# Altium schematic symbol library Operational Amplifiers.SchLib: 237 symbols (part 1 of 2)
Pins are listed as number, name and electrical type; pins without a type are passive.

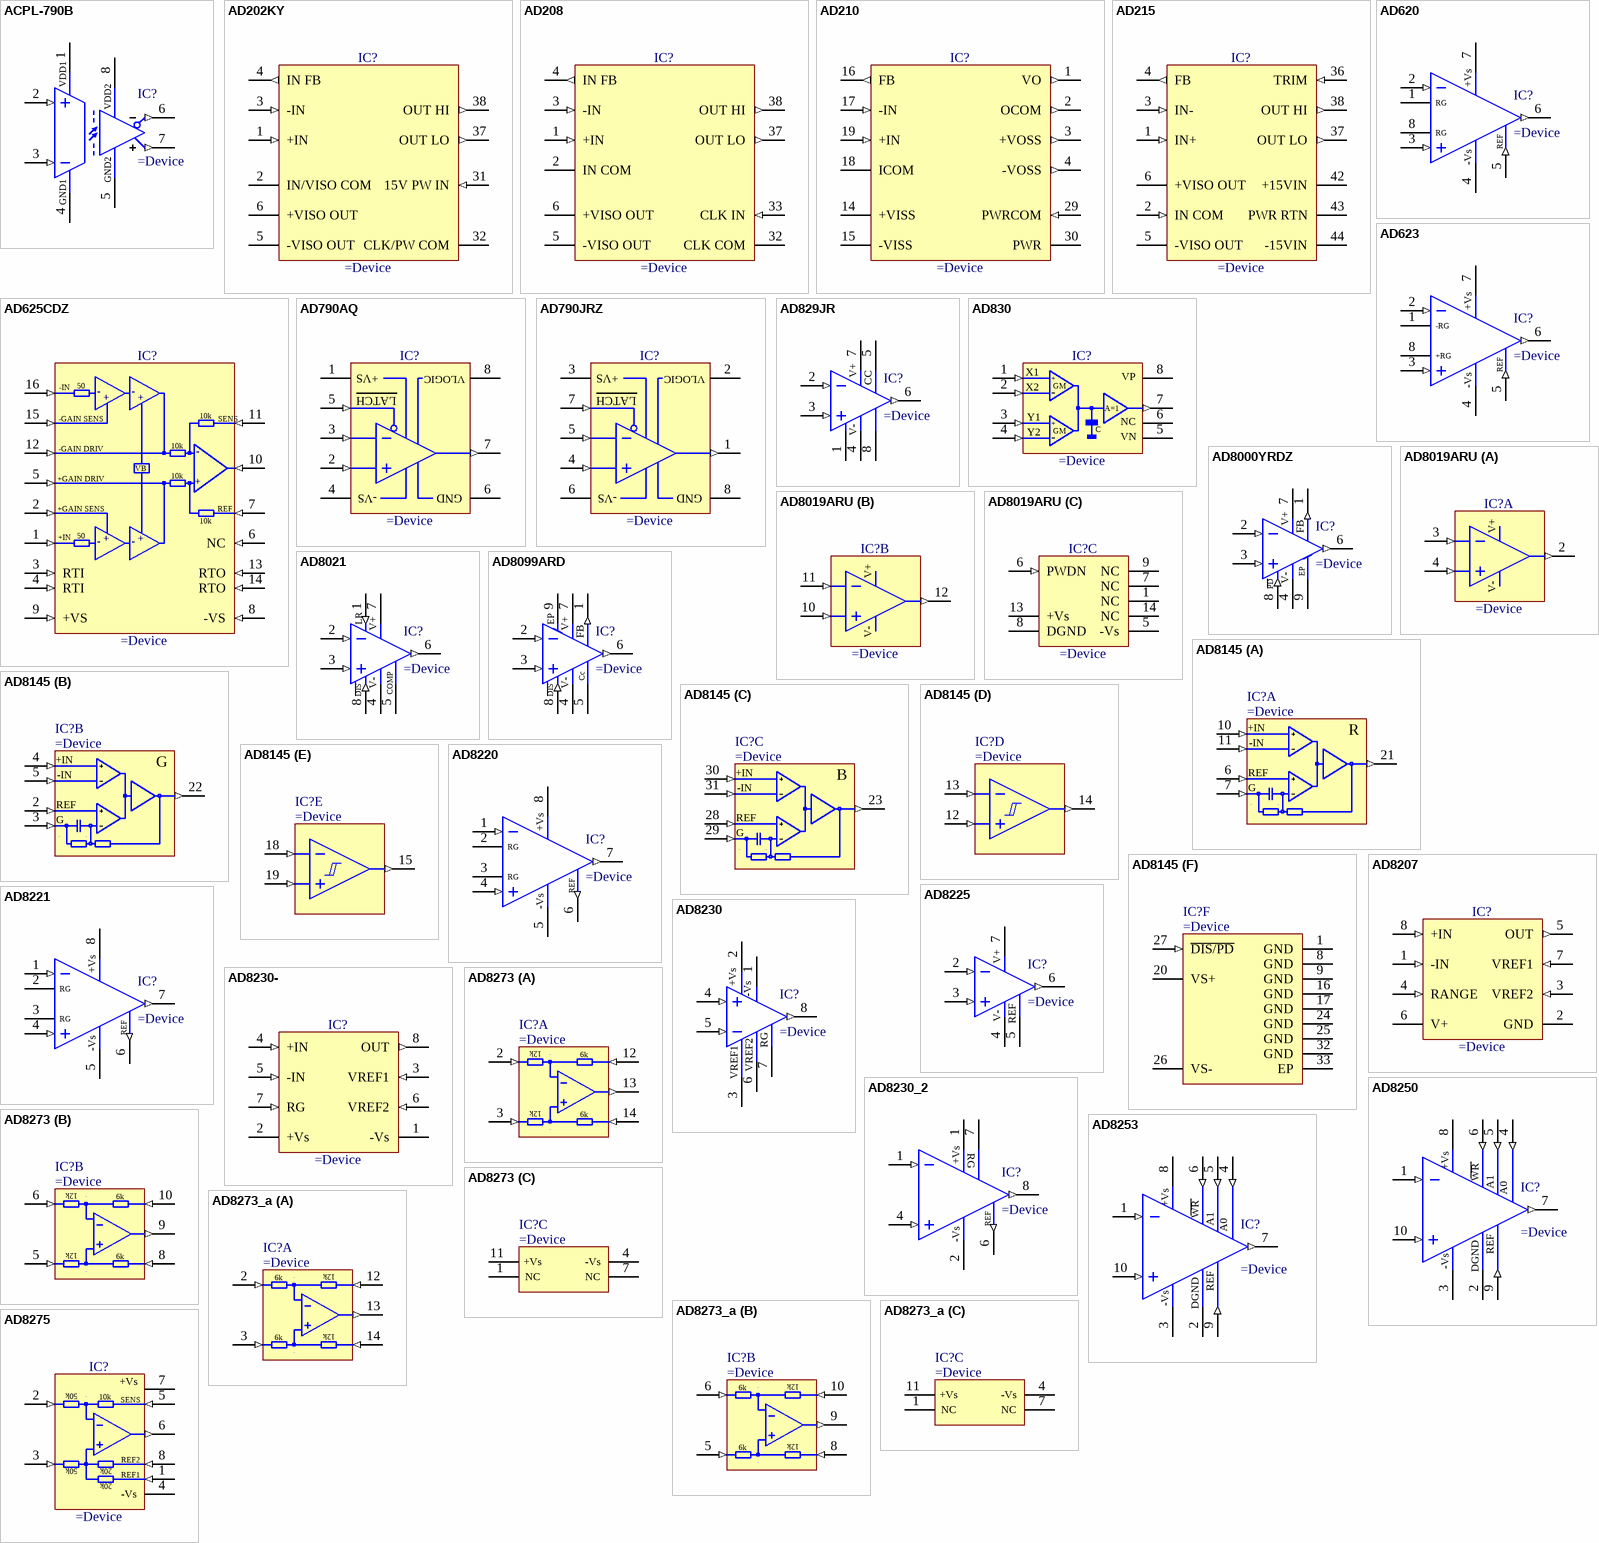
[diagram p0: symbols ACPL-790B to AD8275]

## ACPL-790B
designator IC?
Precision Isolation Amplifiers
pins: 1 VDD1 (power), 2 VIN+ (in), 3 VIN- (in), 4 GND1 (power), 5 GND2 (power), 6 VOUT- (out), 7 VOUT+ (out), 8 VDD2 (power)
1 alternate drawing of the same symbol

## AD202KY
designator IC?
Low Cost, Miniature Isolation Amplifier
pins: 1 +IN (in), 2 IN/VISO COM (power), 3 -IN (in), 4 IN FB (out), 5 -VISO OUT (power), 6 +VISO OUT (power), 31 15V PW IN (in), 32 CLK/PW COM (power), 37 OUT LO (out), 38 OUT HI (out)

## AD208
designator IC?
High Precision, Low Offset, mV Input Isolation Amplifier
pins: 1 +IN (in), 2 IN COM (power), 3 -IN (in), 4 IN FB (out), 5 -VISO OUT (power), 6 +VISO OUT (power), 32 CLK COM (power), 33 CLK IN (in), 37 OUT LO (out), 38 OUT HI (out)

## AD210
designator IC?
Precision, Wide Bandwidth 3-Port Isolation Amplifier
pins: 1 VO (out), 2 OCOM (out), 3 +VOSS (out), 4 -VOSS (out), 14 +VISS (power), 15 -VISS (power), 16 FB (out), 17 -IN (in), 18 ICOM (power), 19 +IN (in), 29 PWRCOM (in), 30 PWR (power)

## AD215
designator IC?
120 kHz Bandwidth, Low Distortion, Isolation Amplifier
pins: 1 IN+ (in), 2 IN COM (in), 3 IN- (in), 4 FB (out), 5 -VISO OUT (power), 6 +VISO OUT (power), 36 TRIM (in), 37 OUT LO (out), 38 OUT HI (out), 42 +15VIN (power), 43 PWR RTN (power), 44 -15VIN (power)

## AD620
designator IC?
Low Cost Low Power Instrumentation Amplifier
pins: 1 -RG, 2 -IN (in), 3 +IN (in), 4 -Vs (power), 5 REF (in), 6 Vout (out), 7 +Vs (power), 8 +RG
1 alternate drawing of the same symbol
text: RG

## AD623
designator IC?
Single-Supply, Rail-to-Rail, Low Cost  Instrumentation Amplifier
pins: 1 -RG, 2 -IN (in), 3 +IN (in), 4 -Vs (power), 5 REF (in), 6 Vout (out), 7 +Vs (power), 8 +RG
1 alternate drawing of the same symbol

## AD625CDZ
designator IC?
Programmable Gain, Instrumentation Amplifier
pins: 1 +IN (in), 2 +GS (in), 3 RTI (in), 4 RTI (in), 5 +GD (in), 6 NC (in), 7 REF (in), 8 -VS (in), 9 +VS (in), 10 VOUT (in), 11 SENS (in), 12 -GD (in), 13 RTO (in), 14 RTO (in), 15 -GS (in), 16 -IN (in)
text: 50; -; +; -GAIN SENS; 10k; -GAIN DRIV; VB; +GAIN DRIV; +GAIN SENS

## AD790AQ
designator IC?
Fast Precision Comparator
pins: 1 +VS (power), 2 +IN (in), 3 -IN (in), 4 -VS (power), 5 ~{LATCH} (in), 6 GND (power), 7 OUT (out), 8 VLOGIC (power)
1 alternate drawing of the same symbol
text: LATCH

## AD790JRZ
designator IC?
Fast Precision Comparator
pins: 1 OUT (out), 2 VLOGIC (power), 3 +VS (power), 4 +IN (in), 5 -IN (in), 6 -VS (power), 7 ~{LATCH} (in), 8 GND (power)
1 alternate drawing of the same symbol
text: LATCH

## AD829JR
designator IC?
High Speed, Low Noise Video Operational Amplifier
pins: 1 ~{DS}, 2 IN- (in), 3 IN+ (in), 4 V- (power), 5 CCOMP, 6 OUT (out), 7 V+ (power), 8 COMP
1 alternate drawing of the same symbol
text: CC

## AD830
designator IC?
High Speed, Difference Amplifier
pins: 1 X1 (in), 2 X2 (in), 3 Y1 (in), 4 Y2 (in), 5 VN (power), 6 NC, 7 OUT (out), 8 VP (power)
text: +; GM; -; A=1; C

## AD8000YRDZ
designator IC?
1.5 GHz Ultrahigh Speed Operational Amplifier
pins: 1 FB (out), 2 IN- (in), 3 IN+ (in), 4 V- (power), 6 OUT (out), 7 V+ (power), 8 ~{DS} (in), 9 EP (power)
1 alternate drawing of the same symbol
text: PD

## AD8019ARU
designator IC?
DSL Line Driver Amplifier With Power-Down
part A pins: 2 OUT (out), 3 -IN (in), 4 +IN (in)
part B pins: 10 +IN (in), 11 -IN (in), 12 OUT (out)
part C pins: 1 NC, 5 -Vs (power), 6 PWDN (in), 7 NC, 8 DGND (power), 9 NC, 13 +Vs (power), 14 NC
part A text: V+; V-
part B text: V+; V-

## AD8021
designator IC?
Low Noise, High Speed Amplifier for 16-Bit Systems
pins: 1 LOGIC REF (in), 2 IN- (in), 3 IN+ (in), 4 V- (power), 5 COMP, 6 OUT (out), 7 V+ (power), 8 ~{DS} (in)
1 alternate drawing of the same symbol
text: LR; DIS

## AD8099ARD
designator IC?
Ultralow Distortion, High Speed 0.95nV/sqrt Hz Voltage Noise Operational Amplifier
pins: 1 FB (out), 2 IN- (in), 3 IN+ (in), 4 V- (power), 5 CC, 6 OUT (out), 7 V+ (power), 8 ~{DS} (in), 9 EP (power)
1 alternate drawing of the same symbol
text: Cc; DIS

## AD8145
designator IC?
High Speed, Triple Differential Receiver With Comparators
part A pins: 6 REF_R (in), 7 GAIN_R (in), 10 IN+_R (in), 11 IN-_R (in), 21 OUT_R (out)
part B pins: 2 REF_G (in), 3 GAIN_G (in), 4 IN+_G (in), 5 IN-G (in), 22 OUT_G (out)
part C pins: 23 OUT_B (out), 28 REF_B (in), 29 GAIN_B (in), 30 IN+_B (in), 31 IN-_B (in)
part D pins: 12 COMPA_IN+ (in), 13 COMPA_IN- (in), 14 COMPA_OUT (out)
part E pins: 15 COMPB_OUT (out), 18 COMPB_IN- (in), 19 COMPB_IN+ (in)
part F pins: 1 GND (power), 8 GND (power), 9 GND (power), 16 GND (power), 17 GND (power), 20 VS+ (power), 24 GND (power), 25 GND (power), 26 VS- (power), 27 ~{DIS/PD} (in), 32 GND (power), 33 EP (power)
part A text: +IN; R; -IN; REF; G
part B text: +IN; G; -IN; REF
part C text: +IN; B; -IN; REF; G

## AD8207
designator IC?
Zero-Drift, High Voltage, Bidirectional Difference Amplifier
pins: 1 -IN (in), 2 GND (power), 3 VREF2 (in), 4 RANGE (in), 5 OUT (out), 6 V+ (power), 7 VREF1 (in), 8 +IN (in)

## AD8220
designator IC?
JFET Input Instrumentation Amplifier with Rail-to-Rail Output
pins: 1 -IN (in), 2 RG, 3 RG, 4 +IN (in), 5 -Vs (power), 6 REF (out), 7 Vout (out), 8 +Vs (power)
1 alternate drawing of the same symbol

## AD8221
designator IC?
Precision Instrumentation Amplifier
pins: 1 -IN (in), 2 RG, 3 RG, 4 +IN (in), 5 -Vs (power), 6 REF (out), 7 Vout (out), 8 +Vs (power)
1 alternate drawing of the same symbol

## AD8225
designator IC?
Precision Gain of 5 Instrumentation Amplifier
pins: 2 IN- (in), 3 IN+ (in), 4 V- (power), 5 OFFSET, 6 OUT (out), 7 V+ (power)
1 alternate drawing of the same symbol
text: REF

## AD8230
designator IC?
16 V Rail-to-Rail, Zero-Drift, Precision Instrumentation Amplifier
pins: 1 -Vs (power), 2 +Vs (power), 3 VREF1, 4 IN+ (in), 5 IN- (in), 6 VREF2, 7 RG, 8 OUT (out)
1 alternate drawing of the same symbol

## AD8230-
designator IC?
16 V Rail-to-Rail, Zero-Drift, Precision Instrumentation Amplifier
pins: 1 -Vs (power), 2 +Vs (power), 3 VREF1 (in), 4 +IN (in), 5 -IN (in), 6 VREF2 (in), 7 RG (in), 8 OUT (out)

## AD8230_2
designator IC?
JFET Input Instrumentation Amplifier with Rail-to-Rail Output
pins: 1 -IN (in), 1 +Vs (power), 2 -Vs (power), 4 +IN (in), 6 REF (out), 7 RG, 8 OUT (out)
1 alternate drawing of the same symbol

## AD8250
designator IC?
10MHz, 20V/us, G= 1, 2, 5, 10 iCMOS Programmable Gain Instrumentation Amplifier
pins: 1 -IN (in), 2 DGND (power), 3 -VS (power), 4 A0 (in), 5 A1 (in), 6 ~{WR} (in), 7 OUT (out), 8 +VS (power), 9 REF (in), 10 +IN (in)
1 alternate drawing of the same symbol
text: +Vs; WR; -Vs

## AD8253
designator IC?
10MHz, 20V/us, G= 1, 10, 100, 1000 iCMOS Programmable Gain Instrumentation Amplifier
pins: 1 -IN (in), 2 DGND (power), 3 -VS (power), 4 A0 (in), 5 A1 (in), 6 ~{WR} (in), 7 OUT (out), 8 +VS (power), 9 REF (in), 10 +IN (in)
1 alternate drawing of the same symbol
text: +Vs; WR; -Vs

## AD8273
designator IC?
Very Low Distortion, Dual-Channel, High Precision Difference Amplifier
part A pins: 2 -INA (in), 3 +INA (in), 12 SENSEA (in), 13 OUTA (out), 14 REFA (in)
part B pins: 5 +INB (in), 6 -INB (in), 8 REFB (in), 9 OUTB (out), 10 SENSEB (in)
part C pins: 1 NC, 4 -Vs (power), 7 NC, 11 +Vs (power)
part A text: 12k; 6k
part B text: 12k; 6k

## AD8273_a
designator IC?
Very Low Distortion, Dual-Channel, High Precision Difference Amplifier
part A pins: 2 -INA (in), 3 +INA (in), 12 SENSEA (in), 13 OUTA (out), 14 REFA (in)
part B pins: 5 +INB (in), 6 -INB (in), 8 REFB (in), 9 OUTB (out), 10 SENSEB (in)
part C pins: 1 NC, 4 -Vs (power), 7 NC, 11 +Vs (power)
part A text: 6k; 12k
part B text: 6k; 12k

## AD8275
designator IC?
G = 0.2, Level Translation, 16-Bit ADC Driver
pins: 1 REF1 (in), 2 IN- (in), 3 IN+ (in), 4 -Vs (power), 5 SENSE (in), 6 OUT (out), 7 +Vs (power), 8 REF2 (in)
text: 50k; 10k; SENS; 20k

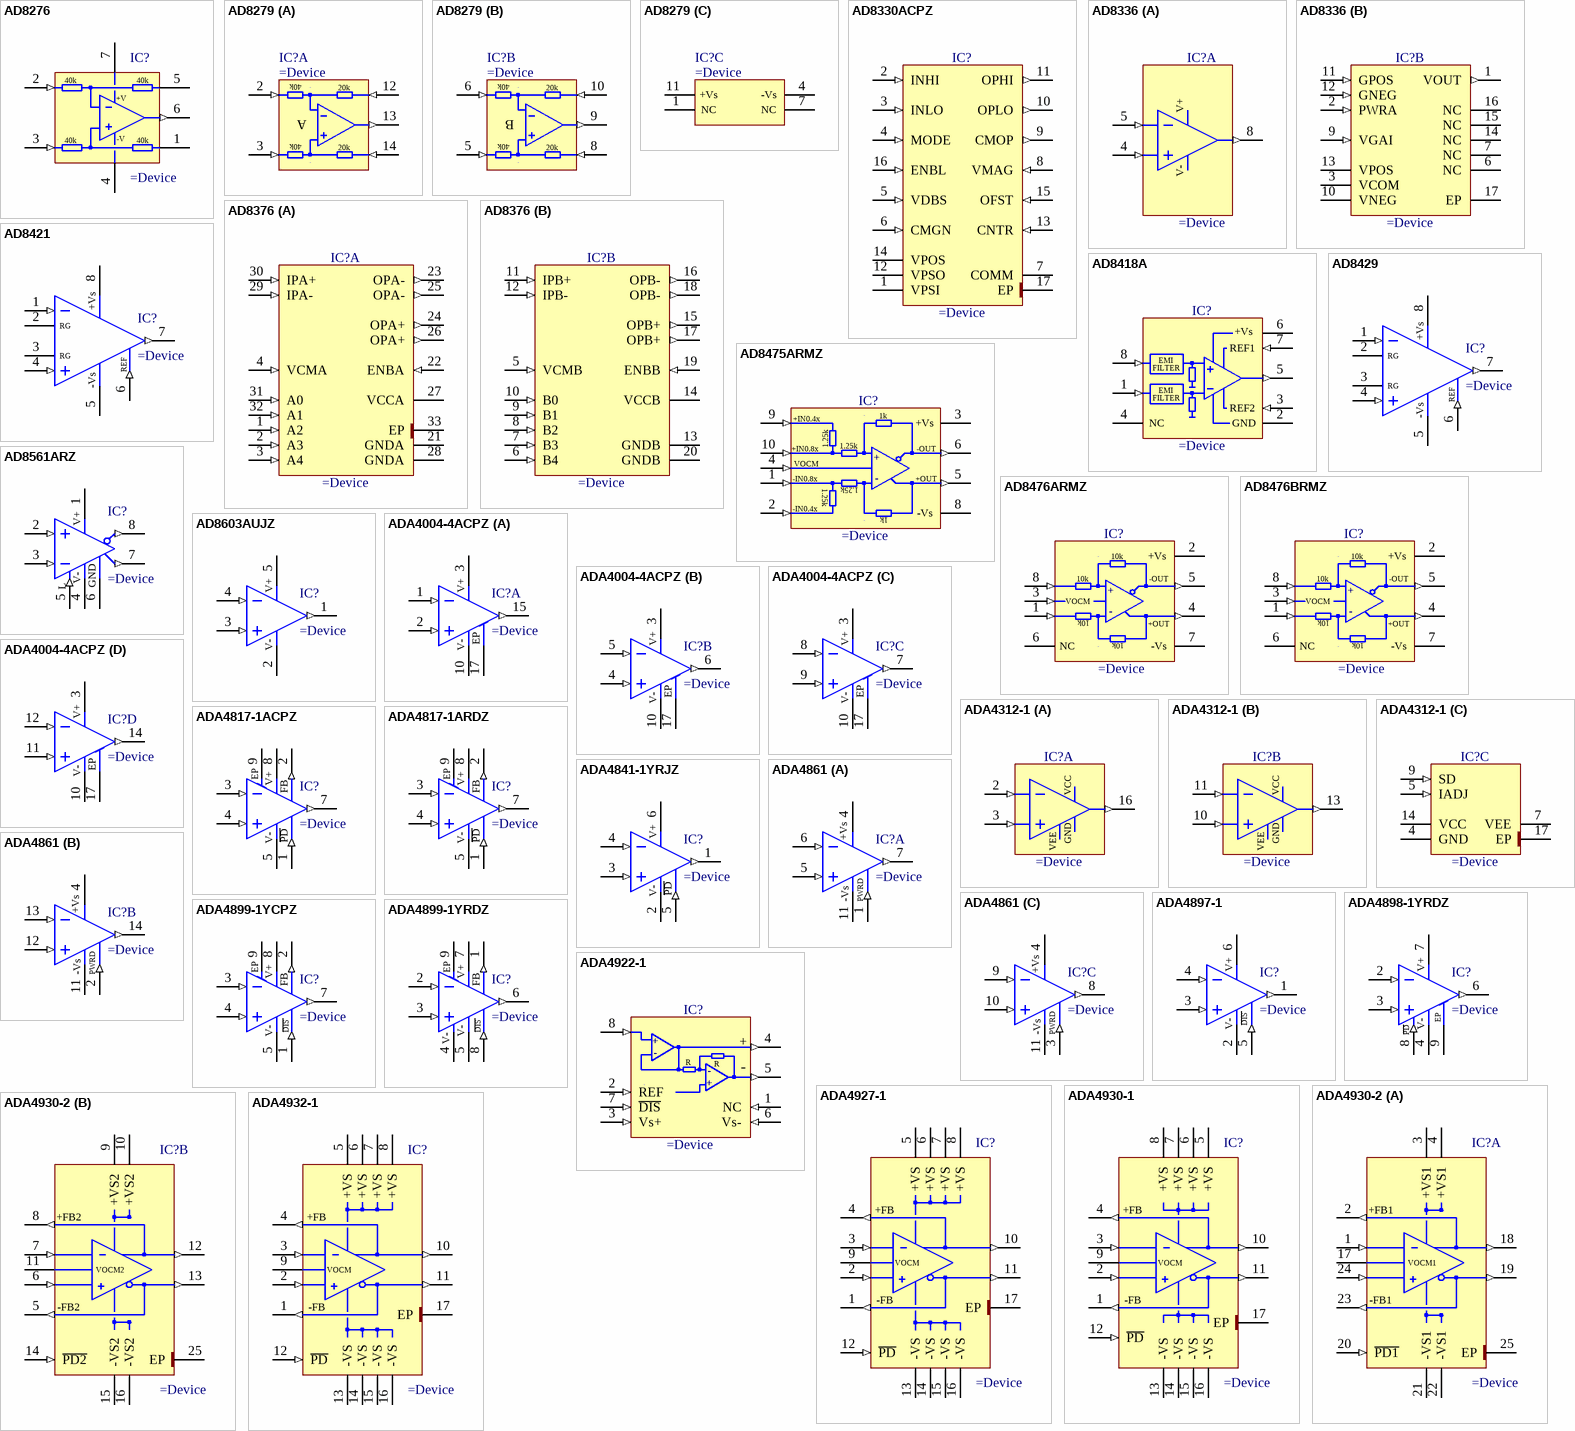
[diagram p1: symbols AD8276 to ADA4932-1]

## AD8276
designator IC?
Low Power, Wide Supply Range, Low Cost Unity-Gain Difference Amplifier
pins: 1 REF, 2 IN- (in), 3 IN+ (in), 4 -VEE (power), 5 SENS, 6 OUT (out), 7 +VCC (power)
1 alternate drawing of the same symbol
text: 40k; +V; -V

## AD8279
designator IC?
Low Power, Wide Supply Range, Low Cost Difference Amplifier, G = ½, 2
part A pins: 2 -INA (in), 3 +INA (in), 12 SENSEA (in), 13 OUTA (out), 14 REFA (in)
part B pins: 5 +INB (in), 6 -INB (in), 8 REFB (in), 9 OUTB (out), 10 SENSEB (in)
part C pins: 1 NC, 4 -Vs (power), 7 NC, 11 +Vs (power)
part A text: 40k; 20k; A
part B text: 40k; 20k; B

## AD8330ACPZ
designator IC?
Low Cost, DC to 150MHz Variable Gain Amplifier
pins: 1 VPSI (power), 2 INHI (in), 3 INLO (in), 4 MODE (in), 5 VDBS (in), 6 CMGN (in), 7 COMM (power), 8 VMAG (in), 9 CMOP (out), 10 OPLO (out), 11 OPHI (out), 12 VPSO (power), 13 CNTR (in), 14 VPOS (power), 15 OFST (in), 16 ENBL (in), 17 EP (power)

## AD8336
designator IC?
Wide Bandwidth, DC Coupled Variable Gain Amplifiers
part A pins: 4 IN+ (in), 5 IN- (in), 8 PRAO (out)
part B pins: 1 VOUT (out), 2 PWRA (in), 3 VCOM (power), 6 NC, 7 NC, 9 VGAI (in), 10 VNEG (power), 11 GPOS (in), 12 GNEG (in), 13 VPOS (power), 14 NC, 15 NC, 16 NC, 17 EP (power)
part A text: V+; V-

## AD8376
designator IC?
Ultralow Distortion IF Dual VGA
part A pins: 1 A2 (in), 2 A3 (in), 3 A4 (in), 4 VCMA (in), 21 GNDA (power), 22 ENBA (in), 23 OPA- (out), 24 OPA+ (out), 25 OPA- (out), 26 OPA+ (out), 27 VCCA (power), 28 GNDA (power), 29 IPA- (in), 30 IPA+ (in), 31 A0 (in), 32 A1 (in), 33 EP (power)
part B pins: 5 VCMB (in), 6 B4 (in), 7 B3 (in), 8 B2 (in), 9 B1 (in), 10 B0 (in), 11 IPB+ (in), 12 IPB- (in), 13 GNDB (power), 14 VCCB (power), 15 OPB+ (out), 16 OPB- (out), 17 OPB+ (out), 18 OPB- (out), 19 ENBB (in), 20 GNDB (power)

## AD8418A
designator IC?
G = 20, Bidirectional, Zero Drift, Current Sense Amplifier
pins: 1 IN- (in), 2 GND (power), 3 VREF2 (in), 4 NC, 5 OUT (out), 6 Vs (power), 7 VREF1 (in), 8 IN+ (in)
text: +Vs; REF1; EMI; FILTER; REF2

## AD8421
designator IC?
3 nV/sqrt Hz Low Noise Instrumentation Amplifier
pins: 1 -IN (in), 2 RG, 3 RG, 4 +IN (in), 5 -Vs (power), 6 REF (in), 7 Vout (out), 8 +Vs (power)
1 alternate drawing of the same symbol

## AD8429
designator IC?
1 nV/sqrt Hz Low Noise Instrumentation Amplifier
pins: 1 -IN (in), 2 RG, 3 RG, 4 +IN (in), 5 -Vs (power), 6 REF (in), 7 Vout (out), 8 +Vs (power)
1 alternate drawing of the same symbol

## AD8475ARMZ
designator IC?
Precision, Selectable Gain, Fully Differential Funnel Amplifier
pins: 1 -IN0.8x (in), 2 -IN0.4x (in), 3 +Vs (power), 4 VOCM (in), 5 OUT+ (out), 6 OUT- (out), 8 -Vs (power), 9 +IN0.4x (in), 10 +IN0.8x (in)
text: 1k; 1.25k; -OUT; +; -; +OUT

## AD8476ARMZ
designator IC?
Low Power, Unity Gain, Fully Differential Amplifier and ADC Driver
pins: 1 IN- (in), 2 +Vs (power), 3 VOCM (in), 4 +OUT (out), 5 -OUT (out), 6 NC, 7 -Vs (power), 8 IN+ (in)
1 alternate drawing of the same symbol
text: 10k; +; -

## AD8476BRMZ
designator IC?
Low Power, Unity Gain, Fully Differential Amplifier and ADC Driver
pins: 1 IN- (in), 2 +Vs (power), 3 VOCM (in), 4 +OUT (out), 5 -OUT (out), 6 NC, 7 -Vs (power), 8 IN+ (in)
1 alternate drawing of the same symbol
text: 10k; +; -

## AD8561ARZ
designator IC?
Ultrafast 7ns Single Supply Comparator
pins: 1 V+ (power), 2 IN+ (in), 3 IN- (in), 4 V- (power), 5 LE (in), 6 GND (power), 7 OUT (out), 8 ~{OUT} (out)
1 alternate drawing of the same symbol
text: L

## AD8603AUJZ
designator IC?
Precision Micropower, Low Noise CMOS, Rail-to-Rail Input/Output Operational Amplifier
pins: 1 OUT (out), 2 V- (power), 3 IN+ (in), 4 IN- (in), 5 V+ (power)
1 alternate drawing of the same symbol

## ADA4004-4ACPZ
designator IC?
Quad Operational Amplifier
pins on every part: 3 V+ (power), 10 V- (power), 17 EP (power)
part A pins: 1 IN- (in), 2 IN+ (in), 15 OUT (out)
part B pins: 4 IN+ (in), 5 IN- (in), 6 OUT (out)
part C pins: 7 OUT (out), 8 IN- (in), 9 IN+ (in)
part D pins: 11 IN+ (in), 12 IN- (in), 14 OUT (out)
1 alternate drawing of the same symbol

## ADA4312-1
designator IC?
Wideband, Differential, High Output Current Line Driver with Shutdown
part A pins: 2 -IN (in), 3 +IN (in), 16 OUT (out)
part B pins: 10 +IN (in), 11 -IN (in), 13 OUT (out)
part C pins: 4 GND (power), 5 IADJ (in), 7 VEE (power), 9 SD (in), 14 VCC (power), 17 EP (power)

## ADA4817-1ACPZ
designator IC?
Low Noise, 1GHz FastFEET Operational Amplifier
pins: 1 ~{PD} (in), 2 FB (out), 3 IN- (in), 4 IN+ (in), 5 -Vs (power), 7 OUT (out), 8 +Vs (power), 9 EP (power)
1 alternate drawing of the same symbol
text: V+; PD; V-

## ADA4817-1ARDZ
designator IC?
Low Noise, 1GHz FastFEET Operational Amplifier
pins: 1 ~{PD} (in), 2 FB (out), 3 IN- (in), 4 IN+ (in), 5 -Vs (power), 7 OUT (out), 8 +Vs (power), 9 EP (power)
1 alternate drawing of the same symbol
text: V+; PD; V-

## ADA4841-1YRJZ
designator IC?
Low Power, Low Noise and Distortion, Rail-to-Rail Output Amplifier
pins: 1 VOUT (out), 2 -VS (power), 3 +IN (in), 4 -IN (in), 5 ~{POWER DOWN} (in), 6 +VS (power)
1 alternate drawing of the same symbol
text: V+; PD; V-

## ADA4861
designator IC?
High Speed, Low Cost, Triple Operational Amplifier
pins on every part: 4 +Vs (power), 11 -Vs (power)
part A pins: 1 PWRDOWN (in), 5 IN+ (in), 6 IN- (in), 7 OUT (out)
part B pins: 2 PWRDOWN (in), 12 IN+ (in), 13 IN- (in), 14 OUT (out)
part C pins: 3 PWRDOWN (in), 8 OUT (out), 9 IN- (in), 10 IN+ (in)
1 alternate drawing of the same symbol
part A text: PWRD
part B text: PWRD
part C text: PWRD

## ADA4897-1
designator IC?
1nV/sqrt Hz, Low Power, Rail-to-Rail Output Amplifier
pins: 1 OUT (out), 2 -Vs (power), 3 +IN (in), 4 -IN (in), 5 ~{DI}S (in), 6 +Vs (power)
1 alternate drawing of the same symbol
text: V+; DIS; V-

## ADA4898-1YRDZ
designator IC?
High Voltage, Low Noise, Low Distortion, Unity-Gain Stable, High Speed Operational Amplifier
pins: 2 IN- (in), 3 IN+ (in), 4 V- (power), 6 OUT (out), 7 V+ (power), 8 ~{DS} (in), 9 EP (power)
1 alternate drawing of the same symbol
text: PD

## ADA4899-1YCPZ
designator IC?
Unity-Gain Stable, Ultralow Distortion, 1 nV/vHz Voltage Noise, High Speed Operational Amplifier
pins: 1 ~{DIS} (in), 2 FB (out), 3 IN- (in), 4 IN+ (in), 5 V- (power), 7 OUT (out), 8 V+ (power), 9 EP (power)
1 alternate drawing of the same symbol
text: DIS

## ADA4899-1YRDZ
designator IC?
Unity-Gain Stable, Ultralow Distortion, 1 nV/vHz Voltage Noise, High Speed Operational Amplifier
pins: 1 FB (out), 2 IN- (in), 3 IN+ (in), 4 V- (power), 5 V- (power), 6 OUT (out), 7 V+ (power), 8 ~{DIS} (in), 9 EP (power)
1 alternate drawing of the same symbol
text: DIS

## ADA4922-1
designator IC?
High Voltage, Differential 18-Bit ADC Driver
pins: 1 NC (in), 2 REF (in), 3 Vs+ (in), 4 OUT+ (out), 5 OUT- (out), 6 Vs- (in), 7 ~{DIS} (in), 8 IN (in)
text: +; -; R

## ADA4927-1
designator IC?
Ultralow Distortion Current Feedback Differential ADC Driver
pins: 1 -FB (out), 2 +IN (in), 3 -IN (in), 4 +FB (out), 5 +VS (power), 6 +VS (power), 7 +VS (power), 8 +VS (power), 9 VOCM, 10 +OUT (out), 11 -OUT (out), 12 ~{PD} (in), 13 -VS (power), 14 -VS (power), 15 -VS (power), 16 -VS (power), 17 EP (power)

## ADA4930-1
designator IC?
Ultralow Noise Drivers For Low Voltage ADCs
pins: 1 -FB (out), 2 +IN (in), 3 -IN (in), 4 +FB (out), 5 +VS (power), 6 +VS (power), 7 +VS (power), 8 +VS (power), 9 VOCM, 10 +OUT (out), 11 -OUT (out), 12 ~{PD} (in), 13 -VS (power), 14 -VS (power), 15 -VS (power), 16 -VS (power), 17 EP (power)

## ADA4930-2
designator IC?
Ultralow Noise Drivers For Low Voltage ADCs
pins on every part: 25 EP (power)
part A pins: 1 -IN1 (in), 2 +FB1 (out), 3 +VS1 (power), 4 +VS1 (power), 17 VOCM1, 18 +OUT1 (out), 19 -OUT1 (out), 20 ~{PD1} (in), 21 -VS1 (power), 22 -VS1 (power), 23 -FB1 (out), 24 +IN1 (in)
part B pins: 5 -FB2 (out), 6 +IN2 (in), 7 -IN2 (in), 8 +FB2 (out), 9 +VS2 (power), 10 +VS2 (power), 11 VOCM2, 12 +OUT2 (out), 13 -OUT2 (out), 14 ~{PD2} (in), 15 -VS2 (power), 16 -VS2 (power)

## ADA4932-1
designator IC?
Low Power Differential ADC Driver
pins: 1 -FB (out), 2 +IN (in), 3 -IN (in), 4 +FB (out), 5 +VS (power), 6 +VS (power), 7 +VS (power), 8 +VS (power), 9 VOCM, 10 +OUT (out), 11 -OUT (out), 12 ~{PD} (in), 13 -VS (power), 14 -VS (power), 15 -VS (power), 16 -VS (power), 17 EP (power)

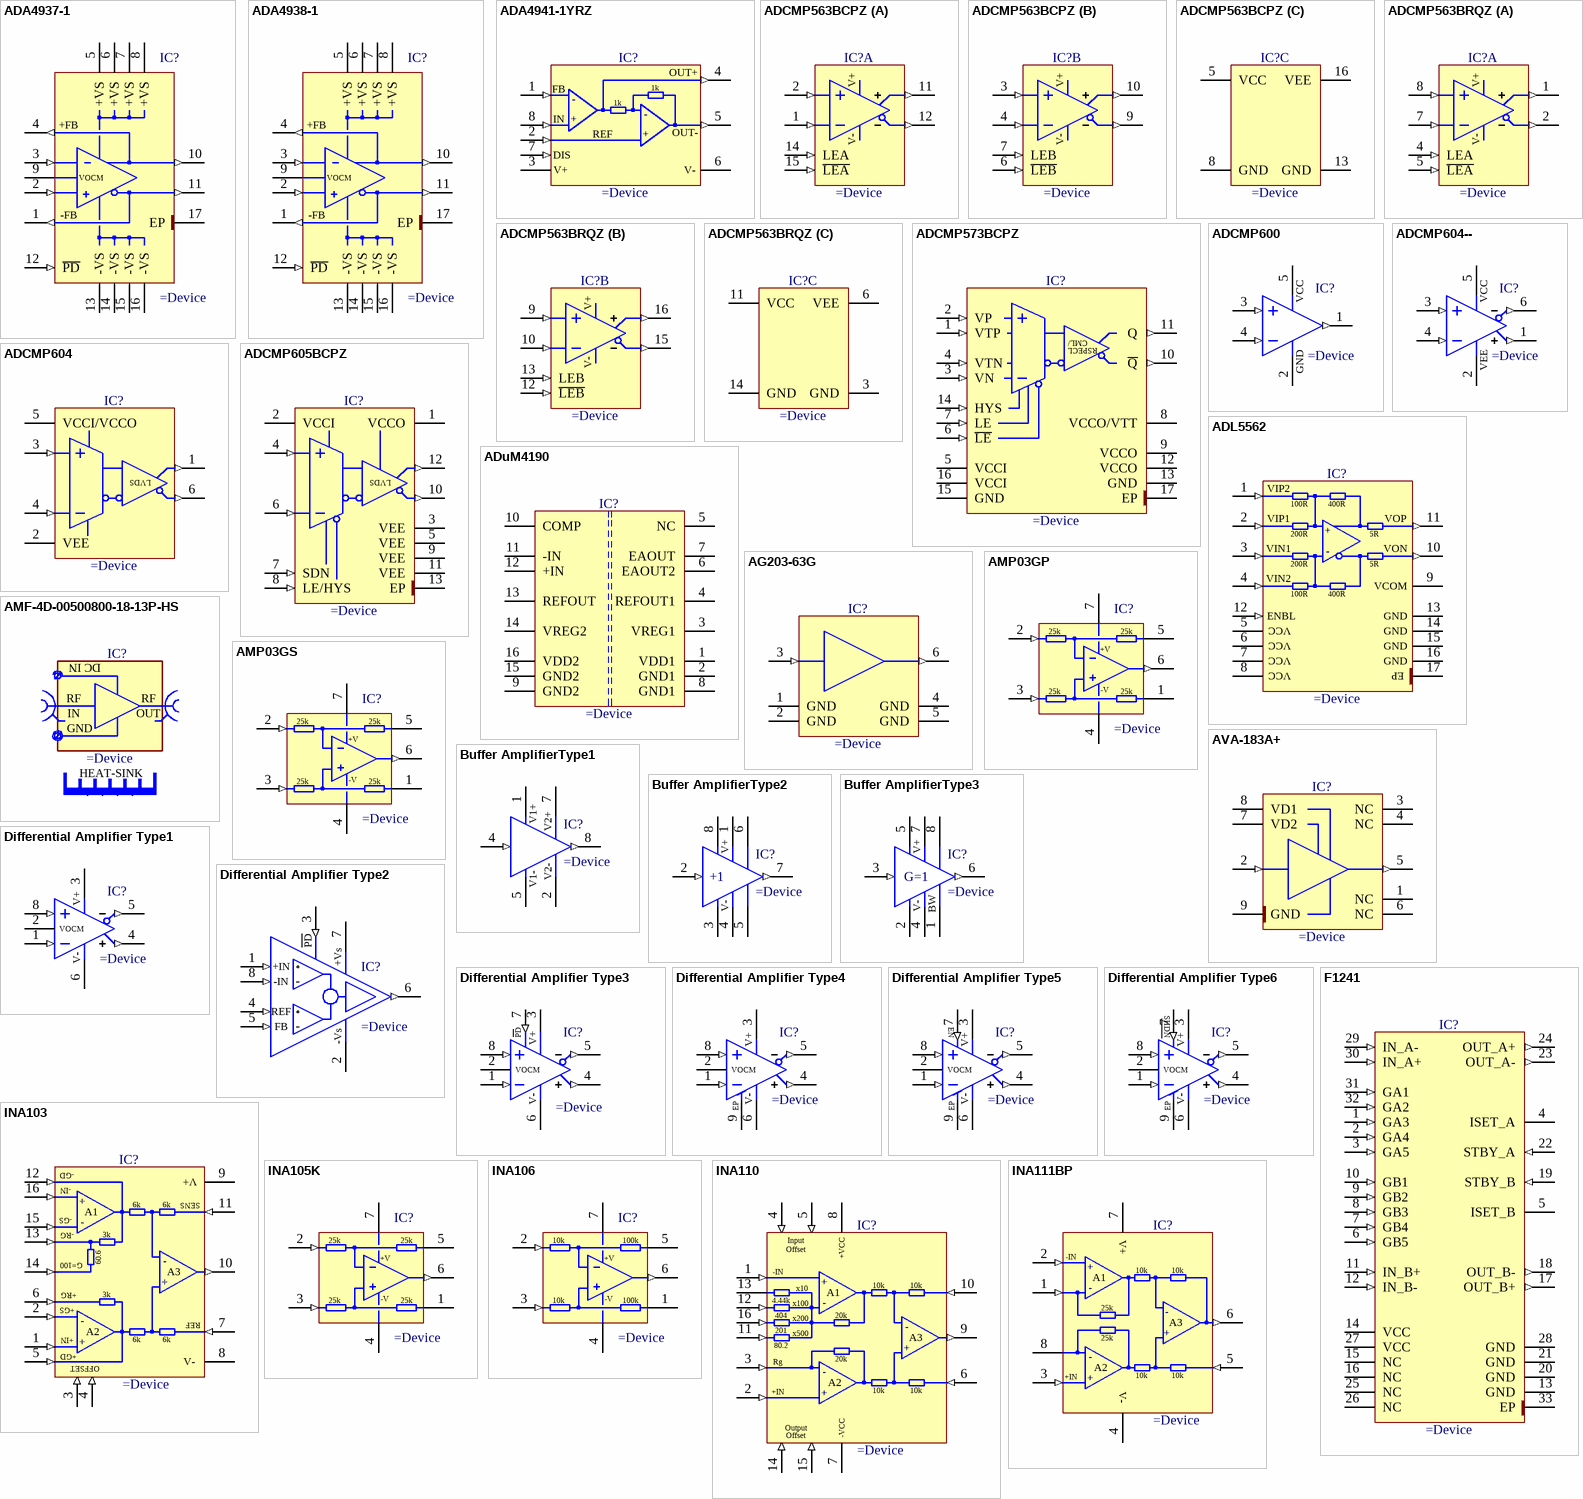
[diagram p2: symbols ADA4937-1 to INA111BP]

## ADA4937-1
designator IC?
Single Ultralow Distortion Differential ADC Driver
pins: 1 -FB (out), 2 +IN (in), 3 -IN (in), 4 +FB (out), 5 +VS (power), 6 +VS (power), 7 +VS (power), 8 +VS (power), 9 VOCM, 10 +OUT (out), 11 -OUT (out), 12 ~{PD} (in), 13 -VS (power), 14 -VS (power), 15 -VS (power), 16 -VS (power), 17 EP (power)

## ADA4938-1
designator IC?
Single Ultralow Distortion Differential ADC Driver
pins: 1 -FB (out), 2 +IN (in), 3 -IN (in), 4 +FB (out), 5 +VS (power), 6 +VS (power), 7 +VS (power), 8 +VS (power), 9 VOCM, 10 +OUT (out), 11 -OUT (out), 12 ~{PD} (in), 13 -VS (power), 14 -VS (power), 15 -VS (power), 16 -VS (power), 17 EP (power)

## ADA4941-1YRZ
designator IC?
Single-Supply, Differential 18-Bit ADC Driver
pins: 1 FB (in), 2 REF (in), 3 V+ (power), 4 OUT+ (out), 5 OUT- (out), 6 V- (power), 7 DIS (in), 8 IN (in)
text: 1k; -; +

## ADCMP563BCPZ
designator IC?
Dual, High Speed ECL Comparators
part A pins: 1 -INA (in), 2 +INA (in), 11 QA (out), 12 ~{QA} (out), 14 LEA (in), 15 ~{LEA} (in)
part B pins: 3 +INB (in), 4 -INB (in), 6 ~{LEB} (in), 7 LEB (in), 9 ~{QB} (out), 10 QB (out)
part C pins: 5 VCC (power), 8 GND (power), 13 GND (power), 16 VEE (power)
part A text: V+; V-
part B text: V+; V-

## ADCMP563BRQZ
designator IC?
Dual, High Speed ECL Comparators
part A pins: 1 QA (out), 2 ~{QA} (out), 4 LEA (in), 5 ~{LEA} (in), 7 -INA (in), 8 +INA (in)
part B pins: 9 +INB (in), 10 -INB (in), 12 ~{LEB} (in), 13 LEB (in), 15 ~{QB} (out), 16 QB (out)
part C pins: 3 GND (power), 6 VEE (power), 11 VCC (power), 14 GND (power)
part A text: V+; V-
part B text: V+; V-

## ADCMP573BCPZ
designator IC?
Ultrafast 3.3V/5V Single-Supply SiGe Comparator
pins: 1 VTP (in), 2 VP (in), 3 VN (in), 4 VTN (in), 5 VCCI (power), 6 ~{LE} (in), 7 LE (in), 8 VCCO/VTT (power), 9 VCCO (power), 10 ~{Q} (out), 11 Q (out), 12 VCCO (power), 13 GND (power), 14 HYS (in), 15 GND (power), 16 VCCI (power), 17 EP (power)
text: CML/; RSPECL

## ADCMP600
designator IC?
Rail-to-Rail, Very Fast, 2.5 V to 5.5 V Single-Supply TTL/CMOS Comparator
pins: 1 q (out), 2 GND (power), 3 VP (in), 4 VN (in), 5 VCC (power)
1 alternate drawing of the same symbol

## ADCMP604
designator IC?
Rail-to-Rail, Very Fast, 2.5 V to 5.5 V Single-Supply LVDS Comparators
pins: 1 Q (out), 2 VEE (power), 3 VP (in), 4 VN (in), 5 VCCI/VCCO (power), 6 ~{Q} (out)
text: LVDS

## ADCMP604--
designator IC?
Rail-to-Rail, Very Fast, 2.5 V to 5.5 V Single-Supply LVDS Comparators
pins: 1 Q (out), 2 VEE (power), 3 VP (in), 4 VN (in), 5 VCC (power), 6 ~{Q} (out)
1 alternate drawing of the same symbol

## ADCMP605BCPZ
designator IC?
Rail-to-Rail, Very Fast, 2.5 V to 5.5 V Single-Supply LVDS Comparators
pins: 1 VCCO (power), 2 VCCI (power), 3 VEE (power), 4 VP (in), 5 VEE (power), 6 VN (in), 7 SDN (in), 8 LE/HYS (in), 9 VEE (power), 10 ~{Q} (out), 11 VEE (power), 12 Q (out), 13 EP (power)
text: LVDS

## ADL5562
designator IC?
3.3 GHz Ultralow Distortion RF/IF Differential Amplifier
pins: 1 VIP2 (in), 2 VIP1 (in), 3 VIN1 (in), 4 VIN2 (in), 5 VCC (power), 6 VCC (power), 7 VCC (power), 8 VCC (power), 9 VCOM (power), 10 VON (out), 11 VOP (out), 12 EN (in), 13 GND (power), 14 GND (power), 15 GND (power), 16 GND (power), 17 EP (power)
text: 100R; 400R; 200R; +; 5R; -; ENBL

## ADuM4190
designator IC?
High Stability Isolated Error Amplifier
pins: 1 VDD1 (power), 2 GND1 (power), 3 VREG1 (power), 4 REFOUT1 (power), 5 NC (power), 6 EAOUT2 (power), 7 EAOUT (power), 8 GND1 (power), 9 GND2 (power), 10 COMP (power), 11 -IN (power), 12 +IN (power), 13 REFOUT (power), 14 VREG2 (power), 15 GND2 (power), 16 VDD2 (power)

## AG203-63G
designator IC?
DC-6000MHz, Single Voltage Supply Buffer Amplifier
pins: 1 GND (power), 2 GND (power), 3 RF IN (in), 4 GND (power), 5 GND (power), 6 RF OUT (out)

## AMF-4D-00500800-18-13P-HS
designator IC?
3.5 - 15GHz AMF Series Amplifier
pins: 1 CASE (power), 2 CASE (power), 3 CASE (power), 4 CASE (power)
text: DC IN; RF; IN; OUT; GND; HEAT-SINK

## AMP03GP
designator IC?
Precision, Unity-Gain Differential Amplifier
pins: 1 REF, 2 IN- (in), 3 IN+ (in), 4 -VEE (power), 5 SENS, 6 OUT (out), 7 +VCC (power)
1 alternate drawing of the same symbol
text: 25k; +V; -V

## AMP03GS
designator IC?
Precision, Unity-Gain Differential Amplifier
pins: 1 REF, 2 IN- (in), 3 IN+ (in), 4 -VEE (power), 5 SENS, 6 OUT (out), 7 +VCC (power)
1 alternate drawing of the same symbol
text: 25k; +V; -V

## AVA-183A+
designator IC?
5-18GHz, 50 Ohm Monolithic Amplifier
pins: 1 NC, 2 RF IN (in), 3 NC, 4 NC, 5 RF OUT (out), 6 NC, 7 VD2 (power), 8 VD1 (power), 9 GND (power)

## Buffer AmplifierType1
designator IC?
Buffer Amplifier
pins: 1 V1+ (power), 2 V2- (power), 4 IN (in), 5 V1- (power), 7 V2+ (power), 8 OUT (out)

## Buffer AmplifierType2
designator IC?
Buffer Amplifier
pins: 1 V+ (power), 2 IN (in), 3 NC, 4 V- (power), 5 NC, 6 NC, 7 OUT (out), 8 NC
text: +1

## Buffer AmplifierType3
designator IC?
Buffer Amplifier
pins: 1 BW, 2 NC, 3 IN (in), 4 V- (power), 5 NC, 6 OUT (out), 7 V+ (power), 8 NC
text: G=1

## Differential Amplifier Type1
designator IC?
Differential Amplifier
pins: 1 IN- (in), 2 VOCM, 3 V+ (power), 4 VOUT+ (out), 5 VOUT- (out), 6 V- (power), 8 IN+ (in)
1 alternate drawing of the same symbol

## Differential Amplifier Type2
designator IC?
Differential Receiver Amplifier
pins: 1 +IN (in), 2 -Vs (power), 3 ~{PD} (in), 4 REF (in), 5 FB (in), 6 OUT (out), 7 +Vs (power), 8 -IN (in)
text: PD

## Differential Amplifier Type3
designator IC?
Differential Amplifier
pins: 1 IN- (in), 2 VOCM, 3 Vs+ (power), 4 VOUT+ (out), 5 VOUT- (out), 6 Vs- (power), 7 ~{PD} (in), 8 IN+ (in)
1 alternate drawing of the same symbol
text: PD; V+; V-

## Differential Amplifier Type4
designator IC?
Differential Amplifier
pins: 1 IN- (in), 2 VOCM, 3 V+ (power), 4 VOUT+ (out), 5 VOUT- (out), 6 V- (power), 8 IN+ (in), 9 Exposed Pad (power)
1 alternate drawing of the same symbol
text: EP

## Differential Amplifier Type5
designator IC?
Differential Amplifier
pins: 1 IN- (in), 2 VOCM, 3 V+ (power), 4 VOUT+ (out), 5 VOUT- (out), 6 V- (power), 7 EN (in), 8 IN+ (in), 9 Exposed Pad (power)
1 alternate drawing of the same symbol
text: EP

## Differential Amplifier Type6
designator IC?
Differential Amplifier
pins: 1 IN- (in), 2 VOCM, 3 V+ (power), 4 VOUT+ (out), 5 VOUT- (out), 6 V- (power), 7 EN (in), 8 IN+ (in), 9 Exposed Pad (power)
1 alternate drawing of the same symbol
text: SHDN; EP

## F1241
designator IC?
Dual IF Digital Variable Gain Amplifier
pins: 1 GA3 (in), 2 GA4 (in), 3 GA5 (in), 4 ISET_A, 5 ISET_B, 6 GB5 (in), 7 GB4 (in), 8 GB3 (in), 9 GB2 (in), 10 GB1 (in), 11 IN_B+ (in), 12 IN_B- (in), 13 GND (power), 14 VCC (power), 15 NC, 16 NC, 17 OUT_B+ (out), 18 OUT_B- (out), 19 STBY_B (in), 20 GND (power), 21 GND (power), 22 STBY_A (in), 23 OUT_A- (out), 24 OUT_A+ (out), 25 NC, 26 NC, 27 VCC (power), 28 GND (power), 29 IN_A- (in), 30 IN_A+ (in), 31 GA1 (in), 32 GA2 (in), 33 EP (power)

## INA103
designator IC?
Low Noise, Low Distortion Instrumentation Amplifier
pins: 1 +IN (in), 2 +GAINS (in), 3 +OFFSET (in), 4 -OFFSET (in), 5 +GAIND (in), 6 +RG (in), 7 REF (in), 8 V- (power), 9 V+ (power), 10 OUT (out), 11 SENSE (in), 12 -GD (in), 13 -RG (in), 14 G=100 (in), 15 -GAINS (in), 16 -IN (in)
text: +; 6k; SENS; A1; -GS; -; 3k; 60.6; A3; +GS; A2; +GD; OFFSET

## INA105K
designator IC?
Precision, Unity-Gain Differential Amplifier
pins: 1 REF, 2 IN- (in), 3 IN+ (in), 4 -VEE (power), 5 SENS, 6 OUT (out), 7 +VCC (power)
1 alternate drawing of the same symbol
text: 25k; +V; -V

## INA106
designator IC?
Precision, Gain=10 Differential Amplifier
pins: 1 REF, 2 IN- (in), 3 IN+ (in), 4 -VEE (power), 5 SENS, 6 OUT (out), 7 +VCC (power)
1 alternate drawing of the same symbol
text: 10k; 100k; +V; -V

## INA110
designator IC?
Fast-Settling FET-Input Very High Accuracy Instrumentation Amplifier
pins: 1 VIN- (in), 2 VIN+ (in), 3 RG (in), 4 OFFSET (in), 5 OFFSET (in), 6 REF (in), 7 -VCC (power), 8 +VCC (power), 9 OUT (out), 10 Sense (in), 11 x500 (in), 12 x100 (in), 13 x10, 14 OFFSET (in), 15 OFFSET (in), 16 x200 (in)
text: Input; Offset; -IN; +; 10k; A1; 4.44k; -; 404; 20k; 201; A3; 80.2; Rg; A2; +IN; Output

## INA111BP
designator IC?
High Speed FET-Input Instrumentation Amplifier
pins: 1 RG (in), 2 VIN- (in), 3 VIN+ (in), 4 V- (power), 5 REF (in), 6 VO (out), 7 V+ (power), 8 RG
text: -IN; +; 10k; A1; -; 25k; A3; A2; +IN

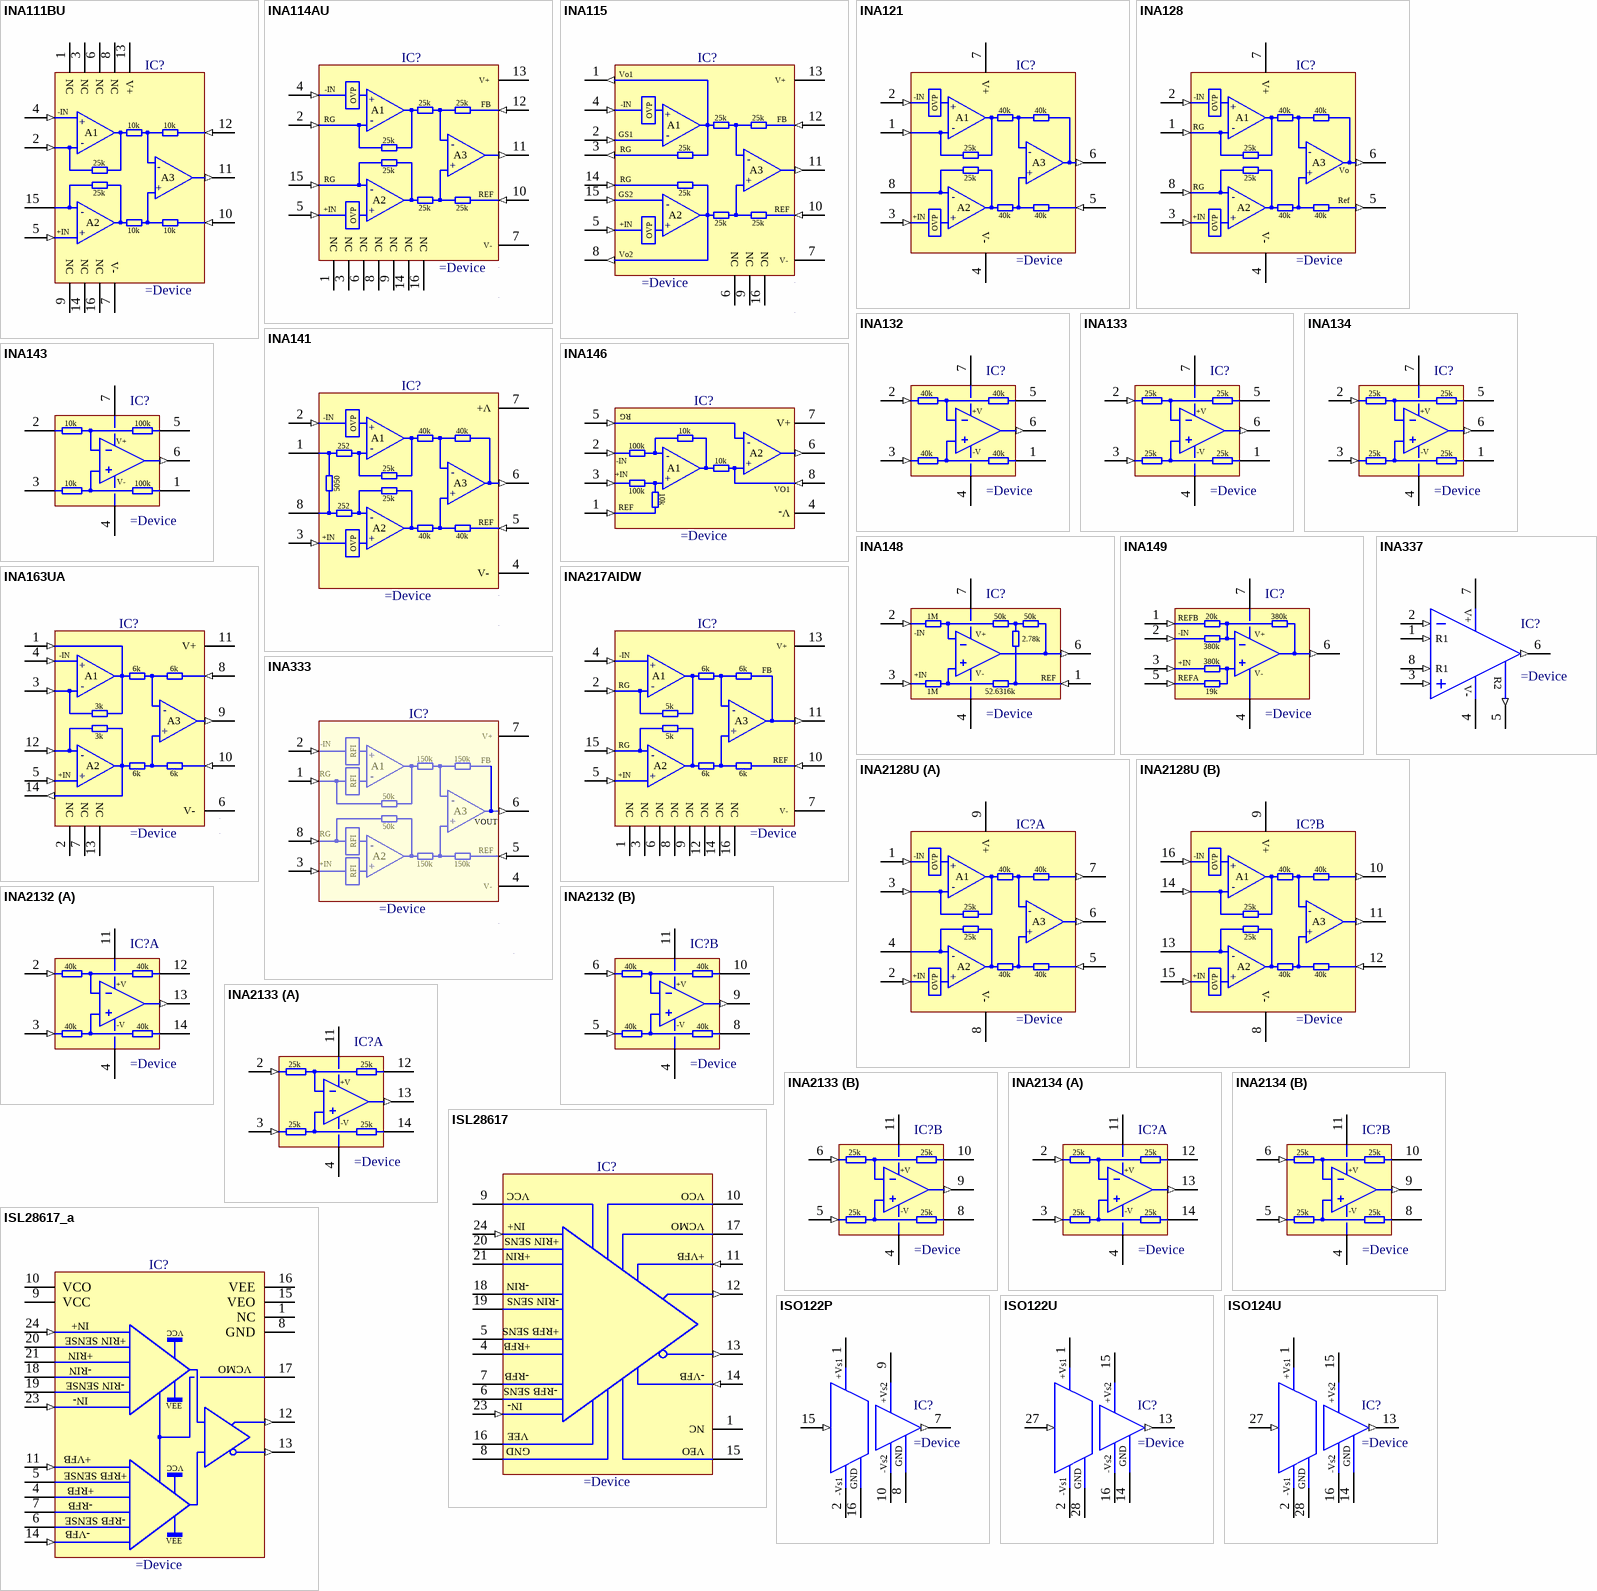
[diagram p3: symbols INA111BU to ISO124U]

## INA111BU
designator IC?
High Speed FET-Input Instrumentation Amplifier
pins: 1 NC, 2 RG (in), 3 NC, 4 VIN- (in), 5 VIN+ (in), 6 NC, 7 V- (power), 8 NC, 9 NC, 10 REF (in), 11 VO (out), 12 FB (in), 13 V+ (power), 14 NC, 15 RG, 16 NC
text: -IN; +; 10k; A1; -; 25k; A3; A2; +IN

## INA114AU
designator IC?
Precision, Instrumentation Amplifier
pins: 1 NC, 2 RG (in), 3 NC, 4 -IN (in), 5 +IN (in), 6 NC, 7 V- (power), 8 NC, 9 NC, 10 REF (in), 11 VO (out), 12 FB (in), 13 V+ (power), 14 NC, 15 RG (in), 16 NC
text: OVP; +; 25k; A1; -; A3; A2

## INA115
designator IC?
Precision, Instrumentation Amplifier
pins: 1 Vo1 (out), 2 GS1 (in), 3 RG (out), 4 -IN (in), 5 +IN (in), 6 NC, 7 V- (power), 8 Vo2 (out), 9 NC, 10 REF (in), 11 Vo (out), 12 FB (in), 13 V+ (power), 14 RG (in), 15 GS2 (in), 16 NC
text: OVP; +; 25k; A1; -; A3; A2

## INA121
designator IC?
FET-Input, Low Power Instrumentation Amplifier
pins: 1 RG (in), 2 VIN- (in), 3 VIN+ (in), 4 V- (power), 5 REF (in), 6 VO (out), 7 V+ (power), 8 RG
text: -IN; OVP; +; 40k; A1; -; 25k; A3; A2; +IN

## INA128
designator IC?
Precision, Low Power Instrumentation Amplifier
pins: 1 RG (in), 2 VIN- (in), 3 VIN+ (in), 4 V- (power), 5 REF (out), 6 VO (out), 7 V+ (power), 8 RG (in)
text: -IN; OVP; +; 40k; A1; -; 25k; A3; Vo; Ref; A2; +IN

## INA132
designator IC?
High-Speed, Precision Difference Amplifier
pins: 1 REF, 2 IN- (in), 3 IN+ (in), 4 -VEE (power), 5 SENS, 6 OUT (out), 7 +VCC (power)
1 alternate drawing of the same symbol
text: 40k; +V; -V

## INA133
designator IC?
High-Speed, Precision Difference Amplifier
pins: 1 REF, 2 IN- (in), 3 IN+ (in), 4 -VEE (power), 5 SENS, 6 OUT (out), 7 +VCC (power)
1 alternate drawing of the same symbol
text: 25k; +V; -V

## INA134
designator IC?
Audio Differential Line Receiver 0dB (G = 1)
pins: 1 REF, 2 IN- (in), 3 IN+ (in), 4 -VEE (power), 5 SENS, 6 OUT (out), 7 +VCC (power)
1 alternate drawing of the same symbol
text: 25k; +V; -V

## INA141
designator IC?
Precision, Low Power, G = 10, 100 Instrumentation Amplifier
pins: 1 J, 2 vin- (in), 3 VIN+ (in), 4 V- (power), 5 REF (in), 6 Vo (out), 7 V+ (power), 8 J
text: -IN; OVP; +; 40k; A1; 252; -; 25k; 5050; A3; A2; +IN

## INA143
designator IC?
High-Speed, Precision, G = 10 or G = 0.1 Difference Amplifier
pins: 1 R3, 2 R1, 3 R4, 4 V- (power), 5 R2, 6 OUT (out), 7 V+ (power)
1 alternate drawing of the same symbol
text: 10k; 100k

## INA146
designator IC?
High-Voltage, Programmable Gain Difference Amplifier
pins: 1 REF (in), 2 VIN- (in), 3 VIN+ (in), 4 V- (power), 5 REF (in), 6 Vo (out), 7 V+ (power), 8 VO1 (in)
text: RG; 10k; 100k; -; A2; -IN; +; A1; +IN

## INA148
designator IC?
±200V Common-Mode Voltage Difference Amplifier
pins: 1 REF (in), 2 -IN (in), 3 +IN (in), 4 V- (power), 6 OUT (out), 7 V+ (power)
text: 1M; 50k; 2.78k; 52.6316k

## INA149
designator IC?
High Common-Mode Voltage Difference Amplifier
pins: 1 REFB (in) "Reference input", 2 -IN (in) "Inverting input", 3 +IN (in) "Noninverting input", 4 V- (power) "Negative power supply", 5 REFA (in) "Reference input", 6 VOUT (out) "Output", 7 V+ (power) "Positive power supply"
text: 20k; 380k; 19k

## INA163UA
designator IC?
Low-Noise, Low-Distortion, Instrumentation Amplifier
pins: 1 VO1 (in), 2 NC, 3 GS1 (in), 4 VIN- (in), 5 VIN+ (in), 6 V- (power), 7 NC, 8 SENSE (in), 9 VO (out), 10 REF (in), 11 V+ (power), 12 GS2 (in), 13 NC, 14 VO2 (out)
text: -IN; +; 6k; A1; -; 3k; A3; A2; +IN

## INA217AIDW
designator IC?
Low-Noise, Low-Distortion, Instrumentation Amplifier
pins: 1 NC, 2 RG1 (in), 3 NC, 4 -IN (in), 5 +IN (in), 6 NC, 7 V- (power), 8 NC, 9 NC, 10 REF (in), 11 VO (out), 12 NC, 13 V+ (power), 14 NC, 15 RG2 (in), 16 NC
text: +; 6k; FB; A1; RG; -; 5k; A3; A2

## INA333
designator IC?
Micro-Power (50μA), Zerø-Drift, Rail-to-Rail Out Instrumentation Amplifier
pins: 1 RG (in), 2 -IN (in), 3 +IN (in), 4 V- (power), 5 REF (in), 6 VOUT (out), 7 V+ (power), 8 RG (in)
text: RFI; +; 150k; FB; A1; -; 50k; A3; A2

## INA337
designator IC?
Wide-Temperature,  Precision  Intrumentation Amplifier
pins: 1 RG (in), 2 VIN- (in), 3 VIN+ (in), 4 V- (power), 5 R2 (out), 6 VO (out), 7 V+ (power), 8 RG (in)
1 alternate drawing of the same symbol
text: R1

## INA2128U
designator IC?
Dual, Low Power Instrumentation Amplifier
pins on every part: 8 V- (power), 9 V+ (power)
part A pins: 1 VINA- (in), 2 VINA+ (in), 3 RGA (in), 4 RGA, 5 REFA (in), 6 VOA (out), 7 SENSEA (out)
part B pins: 10 SENSEB (out), 11 VOB (out), 12 REFB (in), 13 RGB, 14 RGB (in), 15 VINB+ (in), 16 VINB- (in)
part A text: -IN; OVP; +; 40k; A1; -; 25k; A3; A2; +IN
part B text: -IN; OVP; +; 40k; A1; -; 25k; A3; A2; +IN

## INA2132
designator IC?
Dual Low Power, Single Supply Differential Amplifier
pins on every part: 4 V- (power), 11 V+ (power)
part A pins: 2 IN- (in), 3 IN+ (in), 12 SENS, 13 OUT (out), 14 REF
part B pins: 5 IN+ (in), 6 IN- (in), 8 REF, 9 OUT (out), 10 SENS
1 alternate drawing of the same symbol
part A text: 40k; +V; -V
part B text: 40k; +V; -V

## INA2133
designator IC?
Dual High-Speed, Precision Difference Amplifier
pins on every part: 4 V- (power), 11 V+ (power)
part A pins: 2 IN- (in), 3 IN+ (in), 12 SENS, 13 OUT (out), 14 REF
part B pins: 5 IN+ (in), 6 IN- (in), 8 REF, 9 OUT (out), 10 SENS
1 alternate drawing of the same symbol
part A text: 25k; +V; -V
part B text: 25k; +V; -V

## INA2134
designator IC?
Dual Audio Differential Line Receiver 0dB (G = 1)
pins on every part: 4 V- (power), 11 V+ (power)
part A pins: 2 IN- (in), 3 IN+ (in), 12 SENS, 13 OUT (out), 14 REF
part B pins: 5 IN+ (in), 6 IN- (in), 8 REF, 9 OUT (out), 10 SENS
1 alternate drawing of the same symbol
part A text: 25k; +V; -V
part B text: 25k; +V; -V

## ISL28617
designator IC?
40V Precision Instrumentation Amplifier with Differential ADC Driver
pins: 1 NC, 4 +RFB, 5 +RFB SENSE, 6 -RFB SENSE, 7 -RFB, 8 GND (power), 9 VCC (power), 10 VCO (power), 11 +VFB (in), 12 +VOUT (out), 13 -VOUT (out), 14 -VFB (in), 15 VEO (power), 16 VEE (power), 17 VCMO (power), 18 -RIN, 19 -RIN SENSE, 20 +RIN SENSE, 21 +RIN, 23 IN- (in), 24 IN+ (in)
text: +RIN SENS; -RIN SENS; +RFB SENS; -RFB SENS

## ISL28617_a
designator IC?
40V Precision Instrumentation Amplifier with Differential ADC Driver
pins: 1 NC, 4 +RFB, 5 +RFB SENSE, 6 -RFB SENSE, 7 -RFB, 8 GND (power), 9 VCC (power), 10 VCO (power), 11 +VFB (in), 12 +VOUT (out), 13 -VOUT (out), 14 -VFB (in), 15 VEO (power), 16 VEE (power), 17 VCMO (power), 18 -RIN, 19 -RIN SENSE, 20 +RIN SENSE, 21 +RIN, 23 IN- (in), 24 IN+ (in)
1 alternate drawing of the same symbol

## ISO122P
designator IC?
Precision Lowest Cost Isolation Amplifier
pins: 1 +Vs1 (power), 2 -Vs1 (power), 7 VOUT (out), 8 GND (power), 9 +Vs2 (power), 10 -Vs2 (power), 15 VIN (in), 16 GND (power)

## ISO122U
designator IC?
Precision Lowest Cost Isolation Amplifier
pins: 1 +Vs1 (power), 2 -Vs1 (power), 13 VOUT (out), 14 GND (power), 15 +Vs2 (power), 16 -Vs2 (power), 27 VIN (in), 28 GND (power)

## ISO124U
designator IC?
Precision Lowest Cost Isolation Amplifier
pins: 1 +Vs1 (power), 2 -Vs1 (power), 13 VOUT (out), 14 GND2 (power), 15 +Vs2 (power), 16 -Vs2 (power), 27 VIN (in), 28 GND1 (power)
text: GND

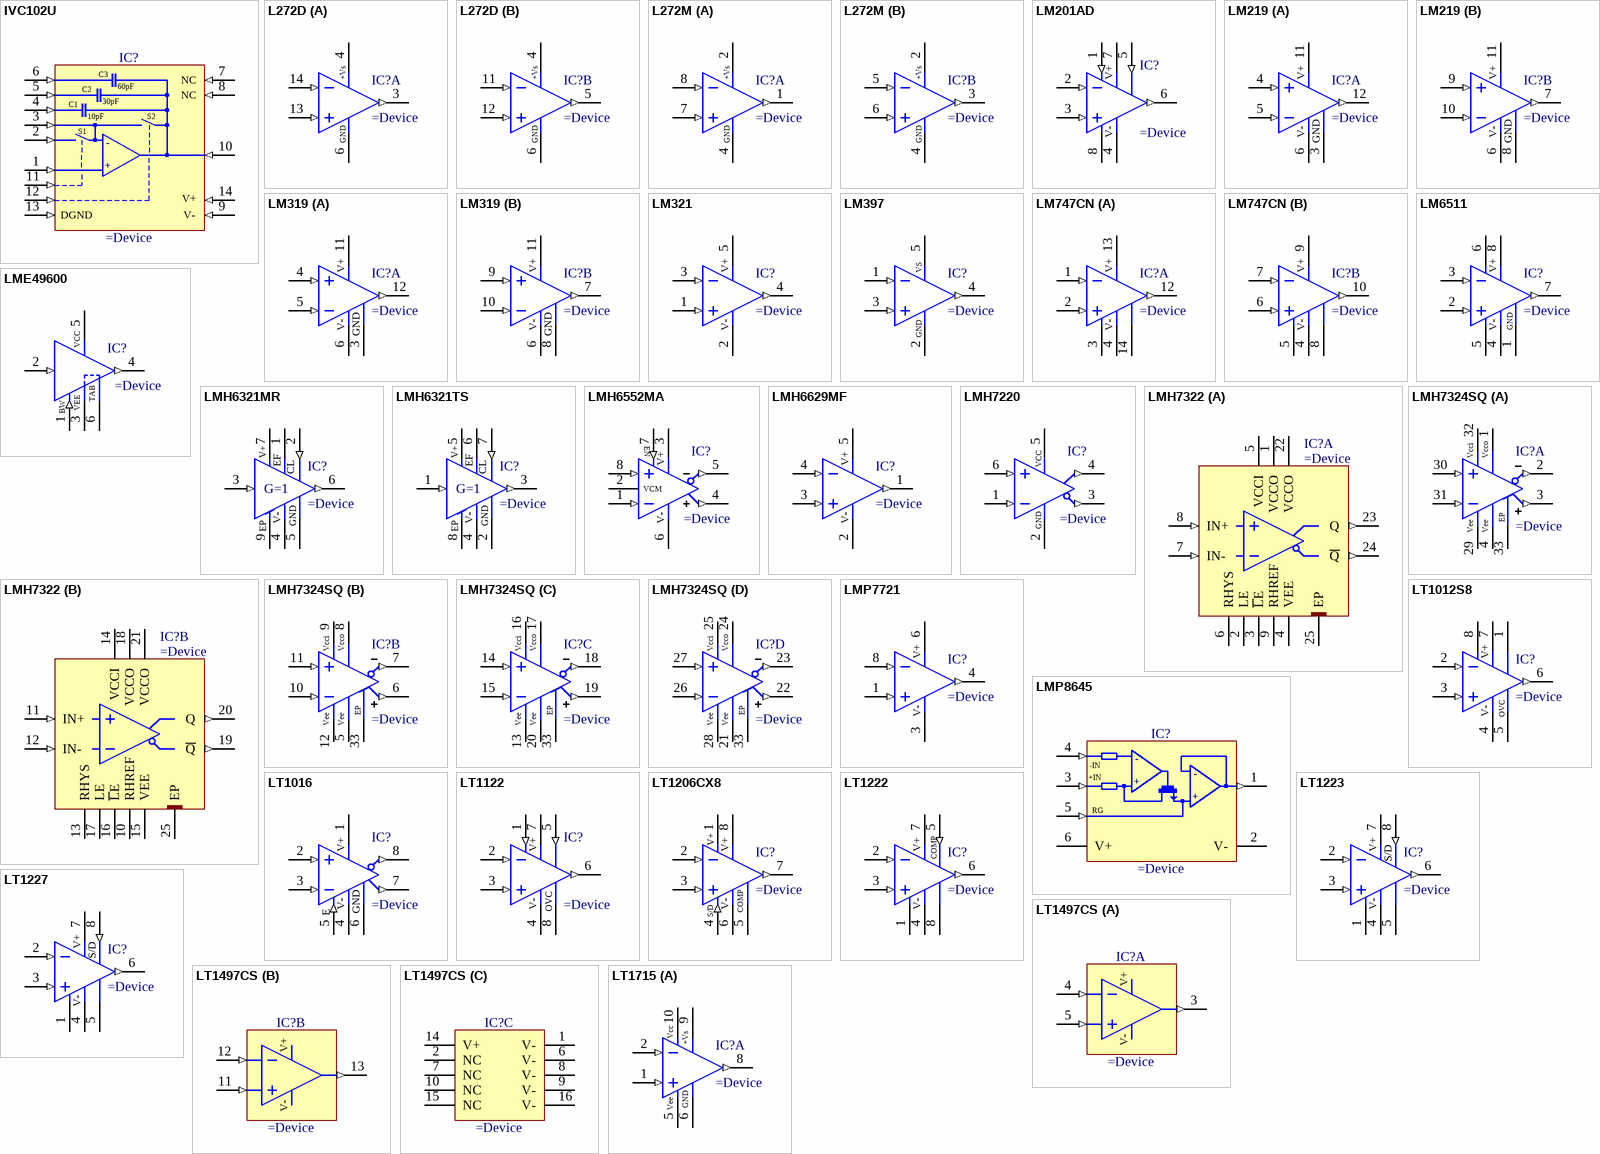
[diagram p4: symbols IVC102U to LT1715]

## IVC102U
designator IC?
Precision Switched Integrator Transimpedance Amplifier
pins: 1 AGND (in), 2 IIN (in), 3 -IN (in), 4 C1 (in), 5 C2 (in), 6 C3 (in), 7 NC (in), 8 NC (in), 9 V- (in), 10 Vo (in), 11 S1 (in), 12 S2 (in), 13 DGND (in), 14 V+ (in)
text: 60pF; 30pF; 10pF; -; +

## L272D
designator IC?
Dual Operational Amplifier
pins on every part: 4 +Vs (power), 6 GND (power)
part A pins: 3 OUT (out), 13 IN+ (in), 14 IN- (in)
part B pins: 5 OUT (out), 11 IN- (in), 12 IN+ (in)
1 alternate drawing of the same symbol

## L272M
designator IC?
Dual Operational Amplifier
pins on every part: 2 +Vs (power), 4 GND (power)
part A pins: 1 OUT (out), 7 IN+ (in), 8 IN- (in)
part B pins: 3 OUT (out), 5 IN- (in), 6 IN+ (in)
1 alternate drawing of the same symbol

## LM201AD
designator IC?
Single Operational Amplifier
pins: 1 BALANCE/COMPENSATION (in), 2 IN- (in), 3 IN+ (in), 4 V- (power), 5 BALANCE (in), 6 COUT (out), 7 V+ (power), 8 COMPENSATION2 (power)
1 alternate drawing of the same symbol

## LM219
designator IC?
High Speed Dual Comparators
pins on every part: 6 V- (power), 11 V+ (power)
part A pins: 3 GND1 (power), 4 IN+ (in), 5 IN- (in), 12 OUT1 (out)
part B pins: 7 OUT2 (out), 8 GND2 (power), 9 IN+ (in), 10 IN- (in)
1 alternate drawing of the same symbol
part A text: GND
part B text: GND

## LM319
designator IC?
High Speed Dual Comparators
pins on every part: 6 V- (power), 11 V+ (power)
part A pins: 3 GND1 (power), 4 IN+ (in), 5 IN- (in), 12 OUT1 (out)
part B pins: 7 OUT2 (out), 8 GND2 (power), 9 IN+ (in), 10 IN- (in)
1 alternate drawing of the same symbol
part A text: GND
part B text: GND

## LM321
designator IC?
Low Power Single Operational Amplifier
pins: 1 IN+ (in), 2 V- (power), 3 IN- (in), 4 OUT (out), 5 V+ (power)
1 alternate drawing of the same symbol

## LM397
designator IC?
Single General Purpose Voltage Comparator
pins: 1 IN- (in), 2 GND (power), 3 IN+ (in), 4 OUT (out), 5 VS (power)
1 alternate drawing of the same symbol

## LM747CN
designator IC?
Dual Operational Amplifier
pins on every part: 4 V- (power)
part A pins: 1 IN- (in), 2 IN+ (in), 3 OFFSET, 12 OUT (out), 13 V+ (power), 14 OFFSET
part B pins: 5 OFFSET, 6 IN+ (in), 7 IN- (in), 8 OFFSET, 9 V+ (power), 10 OUT (out)
1 alternate drawing of the same symbol

## LM6511
designator IC?
180ns 3V Comparator
pins: 1 GND (power), 2 IN+ (in), 3 IN- (in), 4 V- (power), 5 BAL, 6 STRB, 7 OUT (out), 8 V+ (power)
1 alternate drawing of the same symbol

## LME49600
designator IC?
High Performance, High Fidelity, High Current Audio Buffer
pins: 1 BW (in), 2 IN (in), 3 VEE (power), 4 OUT (out), 5 VCC (power), 6 TAB (power)

## LMH6321MR
designator IC?
Buffer Amplifier
pins: 1 BW (oc), 2 NC (in), 3 IN (in), 4 V- (power), 5 NC, 6 OUT (out), 7 V+ (power), 9 NC (power)
text: EF; CL; G=1; GND; EP

## LMH6321TS
designator IC?
Buffer Amplifier
pins: 1 IN (in), 2 NC, 3 OUT (out), 4 V- (power), 5 V+ (power), 6 BW (oc), 7 NC (in), 8 NC (power)
text: EF; CL; G=1; GND; EP

## LMH6552MA
designator IC?
1.5 GHz Fully Differential Amplifier
pins: 1 IN- (in), 2 VOCM, 3 V+ (power), 4 VOUT+ (out), 5 VOUT- (out), 6 V- (power), 7 EN (in), 8 IN+ (in)
1 alternate drawing of the same symbol
text: VCM

## LMH6629MF
designator IC?
Ultra-Low Noise, High-Speed Operational Amplifier With Shutdown
pins: 1 OUT (out), 2 V- (power), 3 IN+ (in), 4 IN- (in), 5 V+ (power)
1 alternate drawing of the same symbol

## LMH7220
designator IC?
High Speed Comparator with LVDS Output
pins: 1 IN- (in), 2 GND (power), 3 VOUT~{Q} (out), 4 VOUTQ (out), 5 VCC (power), 6 IN+ (in)
1 alternate drawing of the same symbol

## LMH7322
designator IC?
Dual 700ps High Speed Comparator with RSPECL Outputs
pins on every part: 25 EP (power)
part A pins: 1 VCCO (power), 2 LE, 3 ~{L}E, 4 VEE (power), 5 VCCI (power), 6 RHYS, 7 IN- (in), 8 IN+ (in), 9 RHREF (power), 22 VCCO (power), 23 Q (out), 24 ~{Q} (out)
part B pins: 10 RHREF, 11 IN+ (in), 12 IN- (in), 13 RHYS, 14 VCCI (power), 15 VEE (power), 16 ~{L}E, 17 LE, 18 VCCO (power), 19 ~{Q} (out), 20 Q (out), 21 VCCO (power)

## LMH7324SQ
designator IC?
Quad 700ps High Speed Comparator With RSPECL Outputs
part A pins: 1 Vcco (power), 2 VOUT- (out), 3 VOUT+ (out), 4 Vee (power), 29 Vee (power), 30 IN+ (in), 31 IN- (in), 32 Vcci (power), 33 Exposed Pad (power)
part B pins: 5 Vee (power), 6 VOUT+ (out), 7 VOUT- (out), 8 Vcco (power), 9 Vcci (power), 10 IN- (in), 11 IN+ (in), 12 Vee (power), 33 Exposed Pad (power)
part C pins: 13 Vee (power), 14 IN+ (in), 15 IN- (in), 16 Vcci (power), 17 Vcco (power), 18 VOUT- (out), 19 VOUT+ (out), 20 Vee (power), 33 Exposed Pad (power)
part D pins: 21 Vee (power), 22 VOUT+ (out), 23 VOUT- (out), 24 Vcco (power), 25 Vcci (power), 26 IN- (in), 27 IN+ (in), 28 Vee (power), 33 Exposed Pad (power)
part A text: EP
part B text: EP
part C text: EP
part D text: EP

## LMP7721
designator IC?
Femtoampere Input Bias Current Precision Amplifier
pins: 1 IN+ (in), 3 V- (power), 4 OUT (out), 6 V+ (power), 8 IN- (in)
1 alternate drawing of the same symbol

## LMP8645
designator IC?
Precision High Voltage Current Sense Amplifier
pins: 1 VOUT (out), 2 V- (power), 3 +IN (in), 4 -IN (in), 5 RG (in), 6 V+ (power)
text: -; +

## LT1012S8
designator IC?
Picoamp Input Current, Microvolt Offset, Low Noise Operational Amplifier
pins: 1 TRIM`, 2 IN- (in), 3 IN+ (in), 4 V- (power), 5 CC, 6 OUT (out), 7 V+ (power), 8 TRIM
1 alternate drawing of the same symbol
text: OVC

## LT1016
designator IC?
UltraFast Precision 10ns Comparator
pins: 1 V+ (power), 2 IN+ (in), 3 IN- (in), 4 V- (power), 5 LE (in), 6 GND (power), 7 OUT (out), 8 ~{OUT} (out)
1 alternate drawing of the same symbol
text: E

## LT1122
designator IC?
Single Operational Amplifier
pins: 1 TRIM (in), 2 IN- (in), 3 IN+ (in), 4 V- (power), 5 TRIM (in), 6 COUT (out), 7 V+ (power), 8 OVERCOMP (power)
1 alternate drawing of the same symbol
text: OVC

## LT1206CX8
designator IC?
250mA/60MHz Current Feedback Amplifier
pins: 1 V+ (power), 2 IN- (in), 3 IN+ (in), 4 S/D (in), 5 COMP, 6 V- (power), 7 OUT (out), 8 V+ (power)
1 alternate drawing of the same symbol

## LT1222
designator IC?
500MHz, 3nV/√Hz, AV≥10, Operational Amplifie, – 40°C to 85°C
pins: 1 NULL, 2 IN- (in), 3 IN+ (in), 4 V- (power), 5 COMP (in), 6 OUT (out), 7 V+ (power), 8 NULL
1 alternate drawing of the same symbol

## LT1223
designator IC?
100MHz Current Feedback Amplifier
pins: 1 OFFSET, 2 IN- (in), 3 IN+ (in), 4 V- (power), 5 OFFSET, 6 OUT (out), 7 V+ (power), 8 SHDN (in)
1 alternate drawing of the same symbol
text: S/D

## LT1227
designator IC?
140MHz Video Current Feedback Amplifier
pins: 1 OFFSET, 2 IN- (in), 3 IN+ (in), 4 V- (power), 5 OFFSET, 6 OUT (out), 7 V+ (power), 8 SHDN (in)
1 alternate drawing of the same symbol
text: S/D

## LT1497CS
designator IC?
Dual 125mA, 50MHz Current Feedback Amplifier
part A pins: 3 OUT (out), 4 -IN (in), 5 +IN (in)
part B pins: 11 +IN (in), 12 -IN (in), 13 OUT (out)
part C pins: 1 V- (power), 2 NC, 6 V- (power), 7 NC, 8 V- (power), 9 V- (power), 10 NC, 14 V+ (power), 15 NC, 16 V- (power)

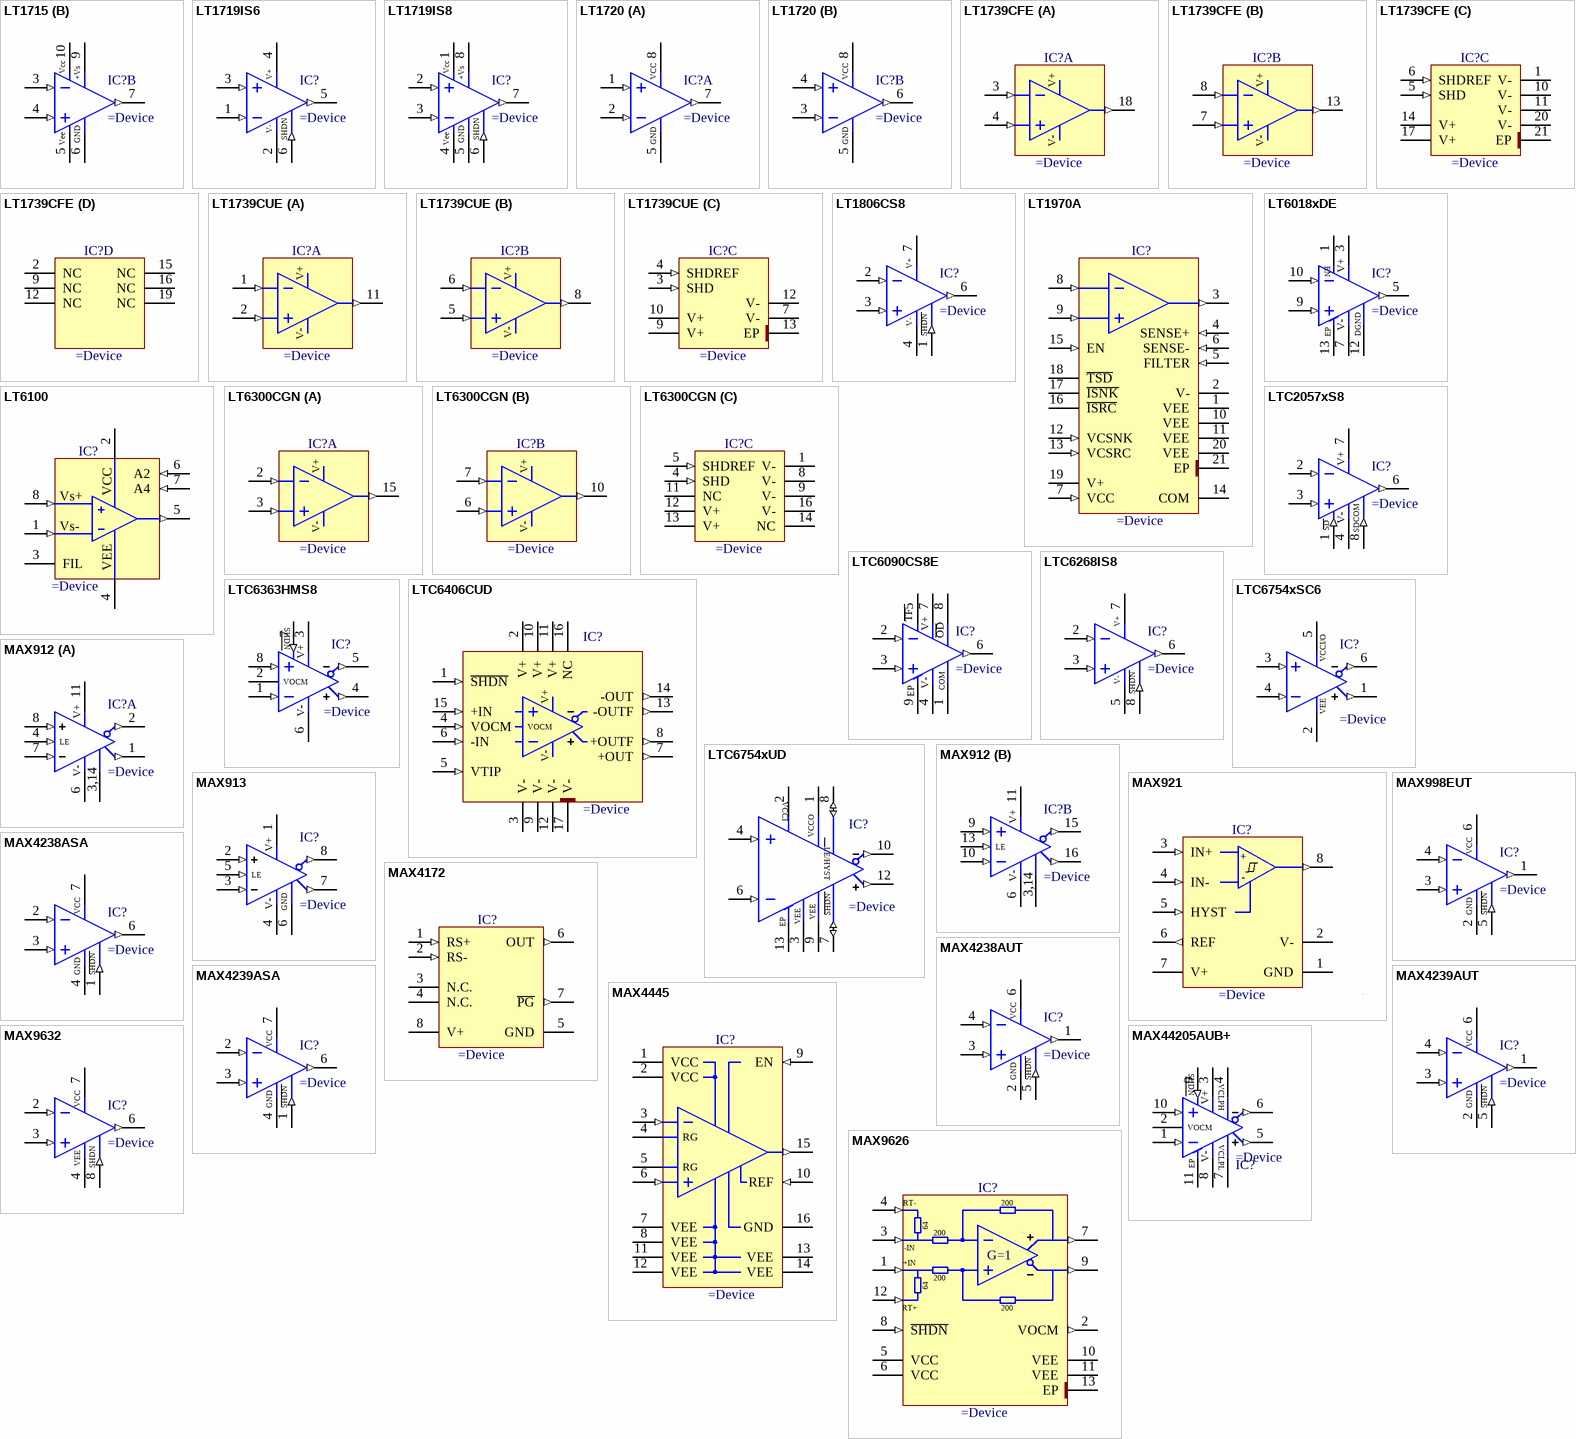
[diagram p5: symbols LT1715 to MAX44205AUB+]

## LT1715
designator IC?
4ns, 150MHz Dual Comparator with Independent Input/Output Supplies
pins on every part: 5 VEE (power), 6 GND (power), 9 +VS (power), 10 VCC (power)
part A pins: 1 IN+ (in), 2 IN- (in), 8 OUT (out)
part B pins: 3 IN- (in), 4 IN+ (in), 7 OUT (out)
1 alternate drawing of the same symbol
part A text: Vcc; +Vs; Vee
part B text: Vcc; +Vs; Vee

## LT1719IS6
designator IC?
4.5ns Dual Supply 3V/5V Comparator with Rail-to-Rail Output
pins: 1 -IN (in), 2 V- (power), 3 +IN (in), 4 V+ (power), 5 OUT (out), 6 SHDN (in)
1 alternate drawing of the same symbol

## LT1719IS8
designator IC?
4.5ns Dual Supply 3V/5V Comparator with Rail-to-Rail Output
pins: 1 VCC (power), 2 +IN (in), 3 -IN (in), 4 VEE (power), 5 GND (power), 6 SHDN (in), 7 OUT (out), 8 +VS (power)
1 alternate drawing of the same symbol
text: Vcc; +Vs; Vee

## LT1720
designator IC?
Dual 4.5ns, Single Supply 3V/5V Comparators With Rail-to-Rail Outputs
pins on every part: 5 GND (power), 8 V+ (power)
part A pins: 1 IN+ (in), 2 IN- (in), 7 OUT (out)
part B pins: 3 IN- (in), 4 IN+ (in), 6 OUT (out)
1 alternate drawing of the same symbol
part A text: VCC
part B text: VCC

## LT1739CFE
designator IC?
Dual 500mA, 200MHz xDSL Line Driver Amplifier
part A pins: 3 -IN (in), 4 +IN (in), 18 OUT (out)
part B pins: 7 +IN (in), 8 -IN (in), 13 OUT (out)
part C pins: 1 V- (power), 5 SHD (in), 6 SHDREF (in), 10 V- (power), 11 V- (power), 14 V+ (power), 17 V+ (power), 20 V- (power), 21 EP (power)
part D pins: 2 NC, 9 NC, 12 NC, 15 NC, 16 NC, 19 NC

## LT1739CUE
designator IC?
Dual 500mA, 200MHz xDSL Line Driver Amplifier
part A pins: 1 -IN (in), 2 +IN (in), 11 OUT (out)
part B pins: 5 +IN (in), 6 -IN (in), 8 OUT (out)
part C pins: 3 SHD (in), 4 SHDREF (in), 7 V- (power), 9 V+ (power), 10 V+ (power), 12 V- (power), 13 EP (power)

## LT1806CS8
designator IC?
325MHz, Rail-to-Rail Input and Output, Low Distortion, Low-Noise, Precision Amplifier
pins: 1 ~{SHDN} (in), 2 IN- (in), 3 IN+ (in), 4 GND (power), 6 OUT (out), 7 VCC (power)
1 alternate drawing of the same symbol
text: V+; SHDN; V-

## LT1970A
designator IC?
500mA Power Operational Amplifier with Adjustable Precision Current Limit
pins: 1 VEE (power), 2 V- (power), 3 OUT (out), 4 SENSE+ (in), 5 FILTER (in), 6 SENSE- (in), 7 VCC (in), 8 -IN (in), 9 +IN (in), 10 VEE (power), 11 VEE (power), 12 VCSNK (in), 13 VCSRC (in), 14 COM (power), 15 EN (in), 16 ~{ISRC} (oc), 17 ~{ISNK} (oc), 18 ~{TSD} (oc), 19 V+ (power), 20 VEE (power), 21 EP (power)

## LT6018xDE
designator IC?
33V, Ultralow Noise, Precision Operational Amplifier
pins: 1 EN, 3 V+ (power), 5 OUT (out), 7 V- (power), 9 IN+ (in), 10 IN- (in), 12 DGND (power), 13 EP (power)
1 alternate drawing of the same symbol

## LT6100
designator IC?
Precision, Gain Selectable High Side Current Sense Amplifier
pins: 1 Vs- (in), 2 VCC (power), 3 FIL, 4 VEE (power), 5 VOUT (out), 6 A2 (in), 7 A4 (in), 8 Vs+ (in)
1 alternate drawing of the same symbol

## LT6300CGN
designator IC?
Dual 500mA, 200MHz xDSL Line Driver Amplifier
part A pins: 2 -IN (in), 3 +IN (in), 15 OUT (out)
part B pins: 6 +IN (in), 7 -IN (in), 10 OUT (out)
part C pins: 1 V- (power), 4 SHD (in), 5 SHDREF (in), 8 V- (power), 9 V- (power), 11 NC, 12 V+ (power), 13 V+ (power), 14 NC, 16 V- (power)

## LTC2057xS8
designator IC?
High Voltage, Low Noise, Zero-Drift Operational  Amplifier
pins: 1 ~{SD} (in), 2 IN- (in), 3 IN+ (in), 4 V- (power), 6 OUT (out), 7 V+ (power), 8 SDCOM (in)
1 alternate drawing of the same symbol
text: SD

## LTC6090CS8E
designator IC?
140V CMOS Rail-to-Rail Output, Picoamp Input Current Operational Amplifier
pins: 1 COM (power), 2 IN- (in), 3 IN+ (in), 4 V- (power), 5 ~{TFLAG}, 6 OUT (out), 7 V+ (power), 8 ~{OD}, 9 EP (power)
1 alternate drawing of the same symbol
text: TF; OD

## LTC6268IS8
designator IC?
500MHz Ultra-Low Bias Current FET Input Operational Amplifier
pins: 2 IN- (in), 3 IN+ (in), 5 V- (power), 6 OUT (out), 7 VCC (power), 8 ~{SHDN} (in)
1 alternate drawing of the same symbol
text: V+; SHDN

## LTC6363HMS8
designator IC?
500MHz Ultra-Low Bias Current FET Input Operational Amplifier
pins: 1 IN- (in), 2 VOCM, 3 V+ (power), 4 VOUT+ (out), 5 VOUT- (out), 6 V- (power), 7 EN (in), 8 IN+ (in)
1 alternate drawing of the same symbol
text: SHDN

## LTC6406CUD
designator IC?
3GHz, Low Noise, Rail-to-Rail Input Differential Amplifier/Driver
pins: 1 ~{SHDN} (in), 2 V+ (power), 3 V- (power), 4 VOCM (in), 5 VTIP (in), 6 -IN (in), 7 +OUT (out), 8 +OUTF (out), 9 V- (power), 10 V+ (power), 11 V+ (power), 12 V- (power), 13 -OUTF (out), 14 -OUT (out), 15 +IN (in), 16 NC, 17 V- (power)

## LTC6754xSC6
designator IC?
High Speed Rail-to-Rail Input Comparator with LVDS Compatible Outputs
pins: 1 Q (out), 2 VEE (power), 3 IN+ (in), 4 IN- (in), 5 VCCI/VCCO (power), 6 ~{Q} (out)
1 alternate drawing of the same symbol
text: VCCI/O

## LTC6754xUD
designator IC?
High Speed Rail-to-Rail Input Comparator with LVDS Compatible Outputs
pins: 1 VCCO (power), 2 VCCI (power), 3 VEE (power), 4 IN+ (in), 6 IN- (in), 7 SHD~{N} (io), 8 L~{E}_HYST (io), 9 VEE (power), 10 ~{Q} (out), 12 Q (out), 13 EP
1 alternate drawing of the same symbol
text: LE/HYST; SHDN

## MAX912
designator IC?
Dual Differential Inputs and  Complementary TTL outputs
pins on every part: 3 GND (power), 6 V- (power), 11 V+ (power), 14 GND (power)
part A pins: 1 Q (out), 2 ~{Q} (out), 4 LE (in), 7 IN- (in), 8 IN+ (in)
part B pins: 9 IN+ (in), 10 IN- (in), 13 LE (in), 15 ~{Q} (out), 16 Q (out)
1 alternate drawing of the same symbol
part A text: 3,14
part B text: 3,14

## MAX913
designator IC?
Single, Ultra-Fast, Low-Power Precision TTL Comparator
pins: 1 V+ (power), 2 IN+ (in), 3 IN- (in), 4 V- (power), 5 LE (in), 6 GND (power), 7 Q (out), 8 ~{Q} (out)
1 alternate drawing of the same symbol

## MAX921
designator IC?
Ultra Low-Power,  Single/Dual-Supply Comparators
pins: 1 GND (power), 2 V- (power), 3 IN+ (in), 4 IN- (in), 5 HYST (in), 6 REF (out), 7 V+ (power), 8 OUT (out)
1 alternate drawing of the same symbol
text: +; -

## MAX998EUT
designator IC?
Single-Supply Highspeed,  Low-Power Comparator
pins: 1 OUT (out), 2 GND (power), 3 IN+ (in), 4 IN- (in), 5 ~{SHDN} (in), 6 VCC (power)
1 alternate drawing of the same symbol
text: SHDN

## MAX4172
designator IC?
Low-Cost, Precision, High-Side Current-Sense Amplifier
pins: 1 RS+ (in), 2 RS- (in), 3 N.C., 4 N.C., 5 GND (power), 6 OUT (out), 7 ~{PG} (out), 8 V+ (power)

## MAX4238ASA
designator IC?
Ultra-Low Offset/Drift, Low-Noise, Precision Amplifiers
pins: 1 ~{SHDN} (in), 2 IN- (in), 3 IN+ (in), 4 GND (power), 6 OUT (out), 7 VCC (power)
1 alternate drawing of the same symbol
text: SHDN

## MAX4238AUT
designator IC?
Ultra-Low Offset/Drift, Low-Noise, Precision Amplifiers
pins: 1 OUT (out), 2 GND (power), 3 IN+ (in), 4 IN- (in), 5 ~{SHDN} (in), 6 VCC (power)
1 alternate drawing of the same symbol
text: SHDN

## MAX4239ASA
designator IC?
Ultra-Low Offset/Drift, Low-Noise, Precision Amplifiers
pins: 1 ~{SHDN} (in), 2 IN- (in), 3 IN+ (in), 4 GND (power), 6 OUT (out), 7 VCC (power)
1 alternate drawing of the same symbol
text: SHDN

## MAX4239AUT
designator IC?
Ultra-Low Offset/Drift, Low-Noise, Precision Amplifiers
pins: 1 OUT (out), 2 GND (power), 3 IN+ (in), 4 IN- (in), 5 ~{SHDN} (in), 6 VCC (power)
1 alternate drawing of the same symbol
text: SHDN

## MAX4445
designator IC?
Ultra-High-Speed, Low-Distortion, Differential-to-Single-Ended Line Receivers With Enable
pins: 1 VCC (power), 2 VCC (power), 3 IN- (in), 4 RG, 5 RG, 6 IN+ (in), 7 VEE (power), 8 VEE (power), 9 EN (in), 10 REF (in), 11 VEE (power), 12 VEE (power), 13 VEE (power), 14 VEE (power), 15 OUT (out), 16 GND (power)

## MAX9626
designator IC?
Low-Noise, Low-Distortion, 1.35GHz Fully Differential Amplifiers
pins: 1 IN+ (in), 2 VOCM (out), 3 IN- (in), 4 RT- (in), 5 VCC (power), 6 VCC (power), 7 OUT+ (out), 8 ~{SHDN} (in), 9 OUT- (out), 10 VEE (power), 11 VEE (power), 12 RT+ (in), 13 EP
text: 200; 64; -IN; G=1; +IN

## MAX9632
designator IC?
36V, Precision, Low-Noise, Wide-Band Amplifier
pins: 2 IN- (in), 3 IN+ (in), 4 VEE (power), 6 OUT (out), 7 VCC (power), 8 SHDN (in)
1 alternate drawing of the same symbol

## MAX44205AUB+
designator IC?
180MHz, Low-Noise, Low-Distortion,  Fully Differential Op Amp/SAR ADC Driver
pins: 1 IN- (in), 2 VOCM, 3 V+ (power), 4 VCLPH (power), 5 VOUT+ (out), 6 VOUT- (out), 7 VCLPL (power), 8 V- (power), 9 ~{SHDN} (in), 10 IN+ (in), 11 Exposed Pad (power)
1 alternate drawing of the same symbol
text: SHDN; EP

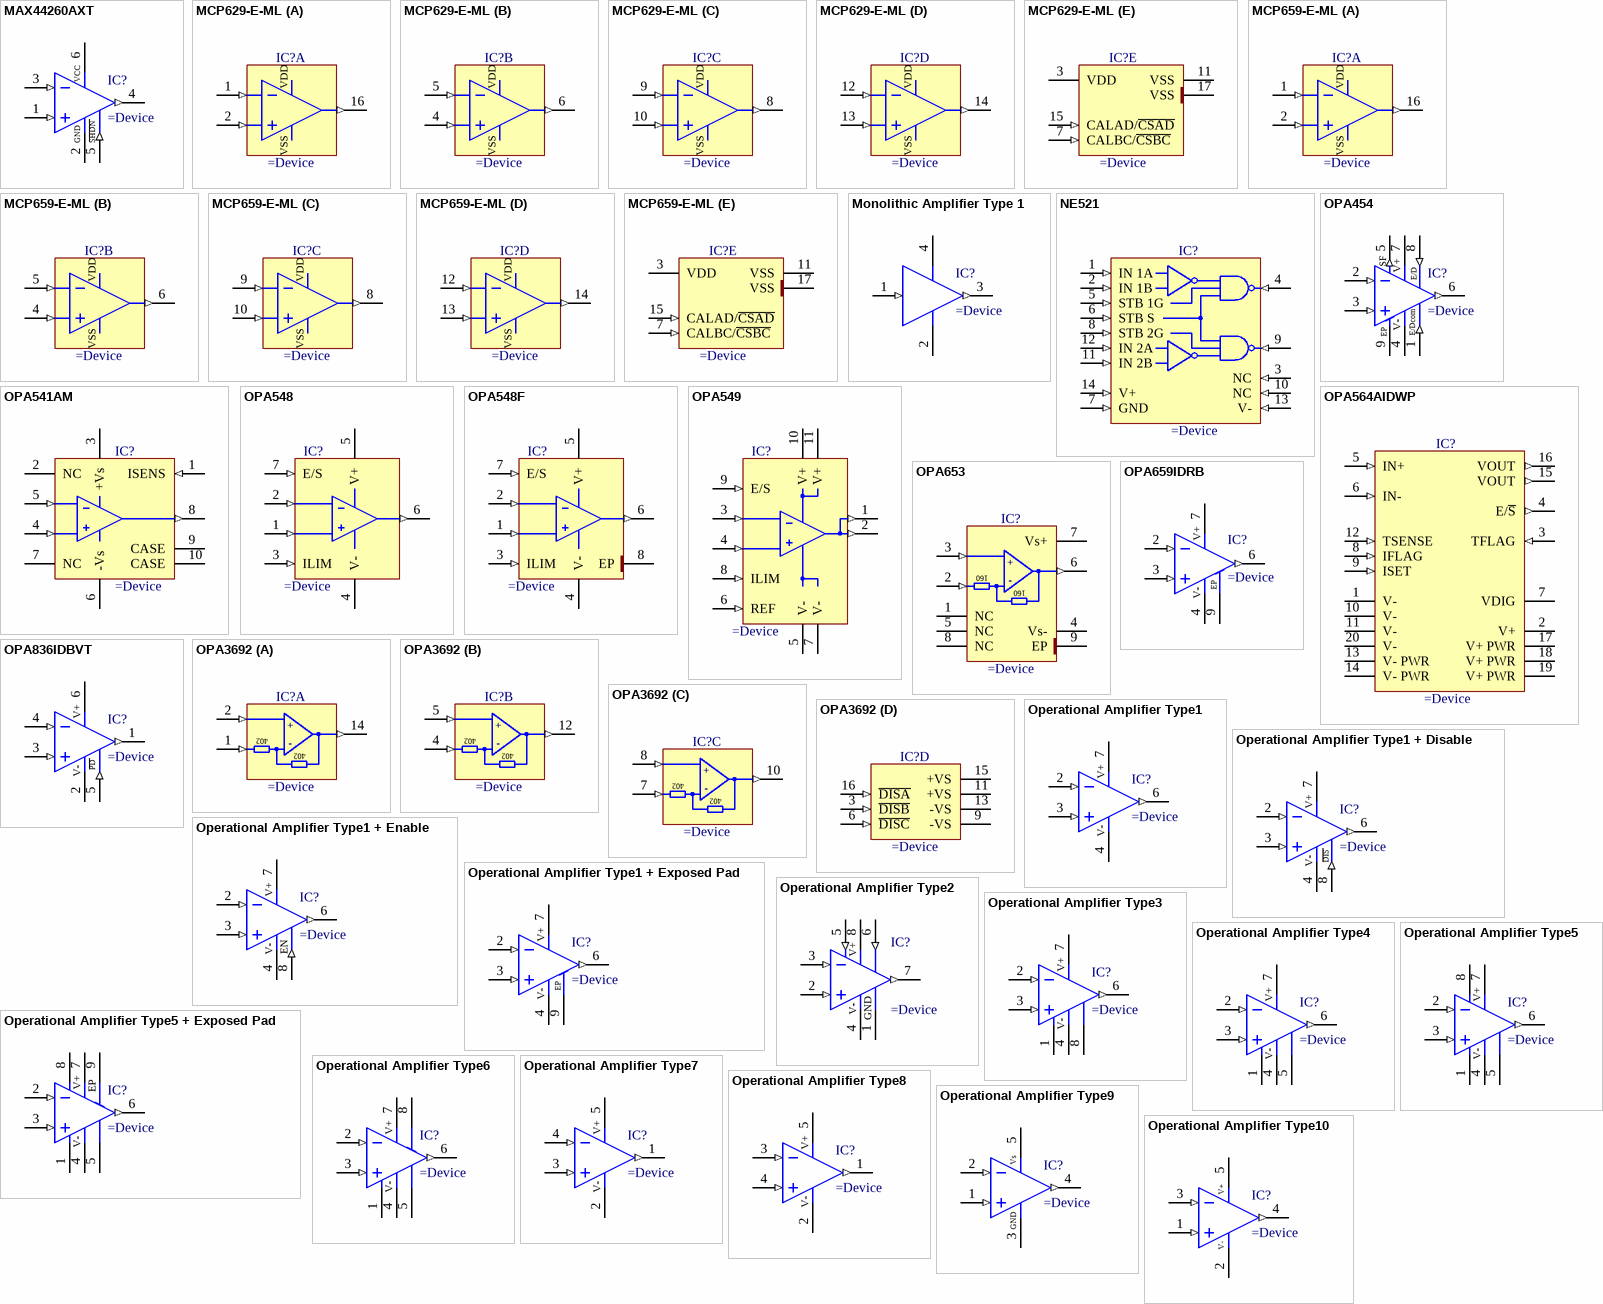
[diagram p6: symbols MAX44260AXT to Operational Amplifier Type10]

## MAX44260AXT
designator IC?
Single-Supply Highspeed,  Low-Power Comparator
pins: 1 IN+ (in), 2 VSS (power), 3 IN- (in), 4 OUT (out), 5 ~{SHDN} (in), 6 VDD (power)
1 alternate drawing of the same symbol
text: VCC; SHDN; GND

## MCP629-E-ML
designator IC?
Quad 20 MHz, 200 μV Op Amps With mCal
part A pins: 1 IN- (in), 2 IN+ (in), 16 OUT (out)
part B pins: 4 IN+ (in), 5 IN- (in), 6 OUT (out)
part C pins: 8 OUT (out), 9 IN- (in), 10 IN+ (in)
part D pins: 12 IN- (in), 13 IN+ (in), 14 OUT (out)
part E pins: 3 VDD (power), 7 CALBC/~{CSBC} (in), 11 VSS (power), 15 CALAD/~{CSAD} (in), 17 VSS (power)

## MCP659-E-ML
designator IC?
Quad 50 MHz, 200 μV Op Amps With mCal
part A pins: 1 IN- (in), 2 IN+ (in), 16 OUT (out)
part B pins: 4 IN+ (in), 5 IN- (in), 6 OUT (out)
part C pins: 8 OUT (out), 9 IN- (in), 10 IN+ (in)
part D pins: 12 IN- (in), 13 IN+ (in), 14 OUT (out)
part E pins: 3 VDD (power), 7 CALBC/~{CSBC} (in), 11 VSS (power), 15 CALAD/~{CSAD} (in), 17 VSS (power)

## Monolithic Amplifier Type 1
designator IC?
Monolithic Amplifier
pins: 1 RF IN (in), 2 GND (power), 3 RF OUT (out), 4 GND (power)

## NE521
designator IC?
High-Speed Dual-Differential Comparator/Sense Amplifier
pins: 1 IN 1A (in), 2 IN 1B (in), 3 NC (in), 4 OUT 1Y (in), 5 STB 1G (in), 6 STB S (in), 7 GND (in), 8 STB 2G (in), 9 OUT 2Y (in), 10 NC (in), 11 IN 2B (in), 12 IN 2A (in), 13 V- (in), 14 V+ (in)

## OPA454
designator IC?
High-Voltage (100V), High-Current (50mA) Operational Amplifier, G=1 Stable
pins: 1 E/Dcommon (in), 2 IN- (in), 3 IN+ (in), 4 V- (power), 5 Status Flag (out), 6 OUT (out), 7 V+ (power), 8 E/B (in), 9 Exposed Pad (power)
1 alternate drawing of the same symbol
text: SF; E/D; E/Dcom; EP

## OPA541AM
designator IC?
High Power Monolithic Operational Amplifier
pins: 1 ISENS (in), 2 NC, 3 +Vs (power), 4 IN+ (in), 5 IN- (in), 6 -Vs (power), 7 NC, 8 VO (out), 9 CASE, 10 CASE
1 alternate drawing of the same symbol

## OPA548
designator IC?
High-Voltage, High-Current Operational Amplifier
pins: 1 IN+ (in), 2 IN- (in), 3 ILIM (in), 4 V- (power), 5 V+ (power), 6 VO (out), 7 E/S (in)
1 alternate drawing of the same symbol

## OPA548F
designator IC?
High-Voltage, High-Current Operational Amplifier
pins: 1 IN+ (in), 2 IN- (in), 3 ILIM (in), 4 V- (power), 5 V+ (power), 6 VO (out), 7 E/S (in), 8 EP (power)
1 alternate drawing of the same symbol

## OPA549
designator IC?
High-Voltage, High-Current Operational Amplifier
pins: 1 VO (out), 2 VO (out), 3 IN- (in), 4 IN+ (in), 5 V- (power), 6 REF (in), 7 V- (power), 8 ILIM (in), 9 E/S (in), 10 V+ (power), 11 V+ (power)
1 alternate drawing of the same symbol

## OPA564AIDWP
designator IC?
Power Operational Amplifier, 1.5A, 24V, 17MHz
pins: 1 V- (power), 2 V+ (power), 3 TFLAG (in), 4 E/~{S} (out), 5 IN+ (in), 6 IN- (in), 7 VDIG (power), 8 IFLAG (in), 9 ISET (in), 10 V- (power), 11 V- (power), 12 TSENSE (in), 13 V- PWR (power), 14 V- PWR (power), 15 VOUT (out), 16 VOUT (out), 17 V+ PWR (power), 18 V+ PWR (power), 19 V+ PWR (power), 20 V- (power)

## OPA653
designator IC?
Wideband, Fixed Gain, JFET-Input Amplifier
pins: 1 NC, 2 -IN (in), 3 +IN (in), 4 Vs- (power), 5 NC, 6 OUT (out), 7 Vs+ (power), 8 NC, 9 EP (power)
text: +; 160; -

## OPA659IDRB
designator IC?
Wideband, Unity-Gain Stable, JFET-Input Operational Amplifier
pins: 2 IN- (in), 3 IN+ (in), 4 V- (power), 6 OUT (out), 7 V+ (power), 9 EP (power)
1 alternate drawing of the same symbol

## OPA836IDBVT
designator IC?
Very Low-Power, Rail-to-Rail Out, Negative Rail In, VFB Operational Amplifier
pins: 1 OUT (out), 2 V- (power), 3 IN+ (in), 4 IN- (in), 5 ~{SHDN} (in), 6 V+ (power)
1 alternate drawing of the same symbol
text: PD

## OPA3692
designator IC?
Triple, Wideband, Fixed Gain Video BUFFER AMPLIFIER With Disable
part A pins: 1 -INA (in), 2 +INA (in), 14 OUTA (out)
part B pins: 4 -INB (in), 5 +INB (in), 12 OUTB (out)
part C pins: 7 -INC (in), 8 +INC (in), 10 OUTC (out)
part D pins: 3 ~{DISB} (in), 6 ~{DISC} (in), 9 -VS (power), 11 +VS (power), 13 -VS (power), 15 +VS (power), 16 ~{DISA} (in)
part A text: +; 402; -
part B text: +; 402; -
part C text: +; 402; -

## Operational Amplifier Type1
designator IC?
Operational Amplifier
pins: 2 IN- (in), 3 IN+ (in), 4 V- (power), 6 OUT (out), 7 V+ (power)
1 alternate drawing of the same symbol

## Operational Amplifier Type1 + Disable
designator IC?
Operational Amplifier with Disable
pins: 2 IN- (in), 3 IN+ (in), 4 V- (power), 6 OUT (out), 7 V+ (power), 8 ~{DIS} (in)
1 alternate drawing of the same symbol
text: DIS

## Operational Amplifier Type1 + Enable
designator IC?
Operational Amplifier with Enable
pins: 2 IN- (in), 3 IN+ (in), 4 V- (power), 6 OUT (out), 7 V+ (power), 8 ~{DIS} (in)
1 alternate drawing of the same symbol
text: EN

## Operational Amplifier Type1 + Exposed Pad
designator IC?
Operational Amplifier with Exposed Thermal Pad
pins: 2 IN- (in), 3 IN+ (in), 4 V- (power), 6 OUT (out), 7 V+ (power), 9 Exposed Pad (power)
1 alternate drawing of the same symbol
text: EP

## Operational Amplifier Type2
designator IC?
Operational Amplifier Differential Outputs
pins: 1 GND (power), 2 IN+ (in), 3 IN- (in), 4 V- (power), 5 BALANCE (in), 6 BALANCE/STROBE (in), 7 COUT (out), 8 V+ (power)
1 alternate drawing of the same symbol

## Operational Amplifier Type3
designator IC?
Operational Amplifier with Offset 1-8
pins: 1 OFFSET, 2 IN- (in), 3 IN+ (in), 4 V- (power), 6 OUT (out), 7 V+ (power), 8 OFFSET
1 alternate drawing of the same symbol